# Altium schematic symbol library BSPO.SchLib: 236 symbols (part 1 of 2)
Pins are listed as number, name and electrical type; pins without a type are passive.

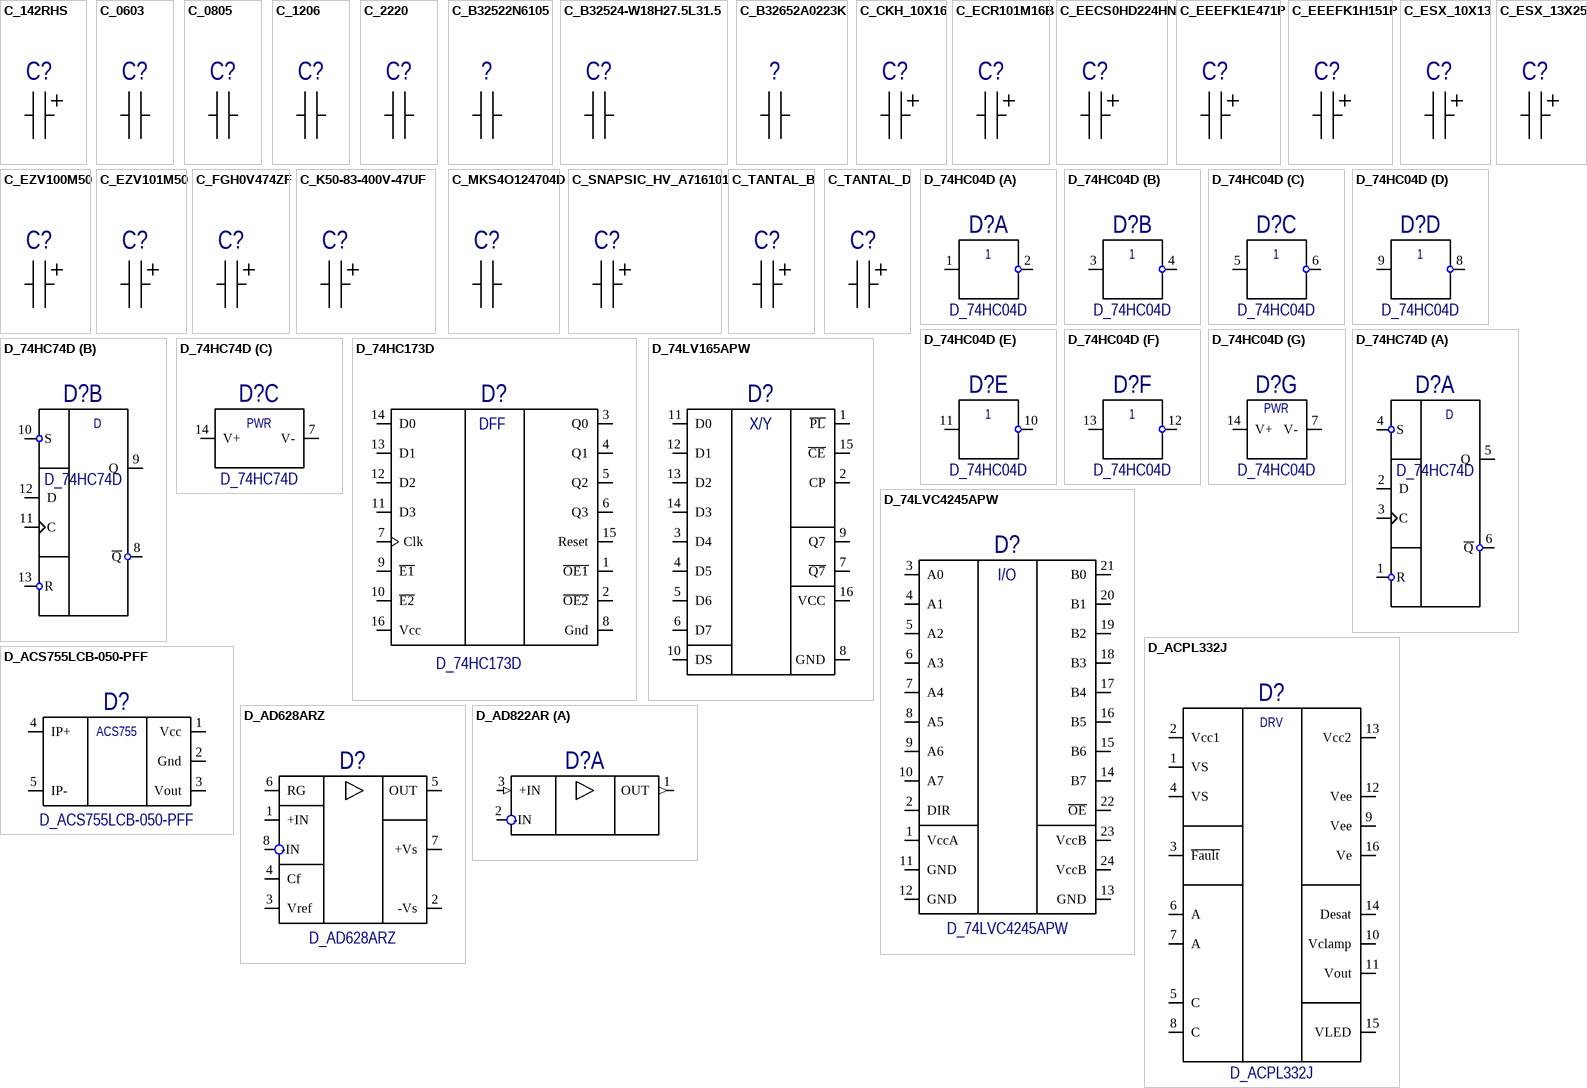
[diagram p0: symbols C_142RHS to D_AD822AR]

## C_142RHS
designator C?  (value not drawn)
Value: {Value}
footprint ESX_8X12_Primary
footprint ESX_8X12_Secondary
pins: 1, 2

## C_0603
designator C?  (value not drawn)
Value: {Value}
footprint C0603_C_0603(Primary)
pins: 1, 2

## C_0805
designator C?  (value not drawn)
Value: {Value}
footprint C0805_C_0805(Primary)
pins: 1, 2

## C_1206
designator C?  (value not drawn)
Value: {Value}
footprint C1206_C_1206(Primary)
pins: 1, 2

## C_2220
designator C?  (value not drawn)
Value: {Value}
footprint C2220_C_2220(Primary)
pins: 1, 2

## C_B32522N6105
designator ?  (value not drawn)
Value: {Value}
footprint B32522_W11.0H18.5L18.0
pins: 1, 2

## C_B32524-W18H27.5L31.5
designator C?  (value not drawn)
Value: {Value}
footprint B32524_Q3106
pins: 1, 2

## C_B32652A0223K
designator ?  (value not drawn)
Value: {Value}
footprint B32652_W5.0H10.5L18.0
pins: 1, 2

## C_CKH_10X16
designator C?  (value not drawn)
Value: {Value}
footprint CKH/CKE_10X16
pins: 1, 2

## C_ECR101M16B
designator C?  (value not drawn)
Value: {Value}
footprint ESX_5X11
pins: 1, 2

## C_EECS0HD224HN
designator C?  (value not drawn)
Value: {Value}
footprint EECS0HD224HN
pins: 1, 2

## C_EEEFK1E471P
designator C?  (value not drawn)
Value: {Value}
footprint EZV151M50
pins: 1, 2

## C_EEEFK1H151P
designator C?  (value not drawn)
Value: {Value}
footprint EZV151M50
pins: 1, 2

## C_ESX_10X13
designator C?  (value not drawn)
Value: {Value}
footprint ESX_10X13_Primary
footprint ESX_10X13_Secondary
pins: 1, 2

## C_ESX_13X25
designator C?  (value not drawn)
Value: {Value}
footprint ESX_13X25_Primary
footprint ESX_13X25_Secondary
pins: 1, 2

## C_EZV100M50
designator C?  (value not drawn)
Value: {Value}
footprint EZV100M50
pins: 1, 2

## C_EZV101M50
designator C?  (value not drawn)
Value: {Value}
footprint EZV101M50
pins: 1, 2

## C_FGH0V474ZF
designator C?  (value not drawn)
Value: {Value}
footprint FGH0V474ZF
pins: 1, 2

## C_K50-83-400V-47UF
designator C?  (value not drawn)
Value: {Value}
footprint CAP_K50-83_18MM
pins: 1, 2

## C_MKS4O124704D
designator C?  (value not drawn)
Value: {Value}
footprint MKS4O_7X14X18
pins: 1, 2

## C_SNAPSIC_HV_A716101
designator C?  (value not drawn)
Value: {Value}
footprint CAP_SNAPIN_22MM
pins: 1, 2

## C_TANTAL_B
designator C?  (value not drawn)
Value: {Value}
footprint TANTAL_B
pins: 1, 2

## C_TANTAL_D
designator C?  (value not drawn)
Value: {Value}
footprint TANTAL_D
pins: 1, 2

## D_74HC04D
designator D?
Value: *
footprint SO-14
part A pins: 1, 2
part B pins: 3, 4
part C pins: 5, 6
part D pins: 8, 9
part E pins: 10, 11
part F pins: 12, 13
part G pins: 7 V-, 14 V+
part G text: PWR

## D_74HC74D
designator D?
Value: *
footprint SO-14
part A pins: 1 R, 2 D, 3 C, 4 S, 5 Q, 6 ~{Q}
part B pins: 8 ~{Q}, 9 Q, 10 S, 11 C, 12 D, 13 R
part C pins: 7 V-, 14 V+
part C text: PWR

## D_74HC173D
designator D?
Value: *
footprint SO-16
pins: 1 ~{OE1}, 2 ~{OE2}, 3 Q0, 4 Q1, 5 Q2, 6 Q3, 7 Clk, 8 Gnd, 9 ~{E1}, 10 ~{E2}, 11 D3, 12 D2, 13 D1, 14 D0, 15 Reset, 16 Vcc
text: DFF

## D_74LV165APW
designator D?  (value not drawn)
Value: *
footprint TSSOP-16
pins: 1 ~{PL}, 2 CP, 3 D4, 4 D5, 5 D6, 6 D7, 7 ~{Q7}, 8 GND, 9 Q7, 10 DS, 11 D0, 12 D1, 13 D2, 14 D3, 15 ~{CE}, 16 VCC
text: X/Y

## D_74LVC4245APW
designator D?
Value: *
footprint TSSOP-24_NO_GND
pins: 1 VccA, 2 DIR, 3 A0, 4 A1, 5 A2, 6 A3, 7 A4, 8 A5, 9 A6, 10 A7, 11 GND, 12 GND, 13 GND, 14 B7, 15 B6, 16 B5, 17 B4, 18 B3, 19 B2, 20 B1, 21 B0, 22 ~{OE}, 23 VccB, 24 VccB
text: I/O

## D_ACPL332J
designator D?
Value: *
footprint SO-16W
pins: 1 VS, 2 Vcc1, 3 ~{Fault}, 4 VS, 5 C, 6 A, 7 A, 8 C, 9 Vee, 10 Vclamp, 11 Vout, 12 Vee, 13 Vcc2, 14 Desat, 15 VLED, 16 Ve
text: DRV

## D_ACS755LCB-050-PFF
designator D?
Value: *
footprint ASC755XCB
pins: 1 Vcc, 2 Gnd, 3 Vout, 4 IP+, 5 IP-
text: ACS755

## D_AD628ARZ
designator D?
Value: *
footprint SO_8
pins: 1 +IN, 2 -Vs, 3 Vref, 4 Cf, 5 OUT, 6 RG, 7 +Vs, 8 -IN

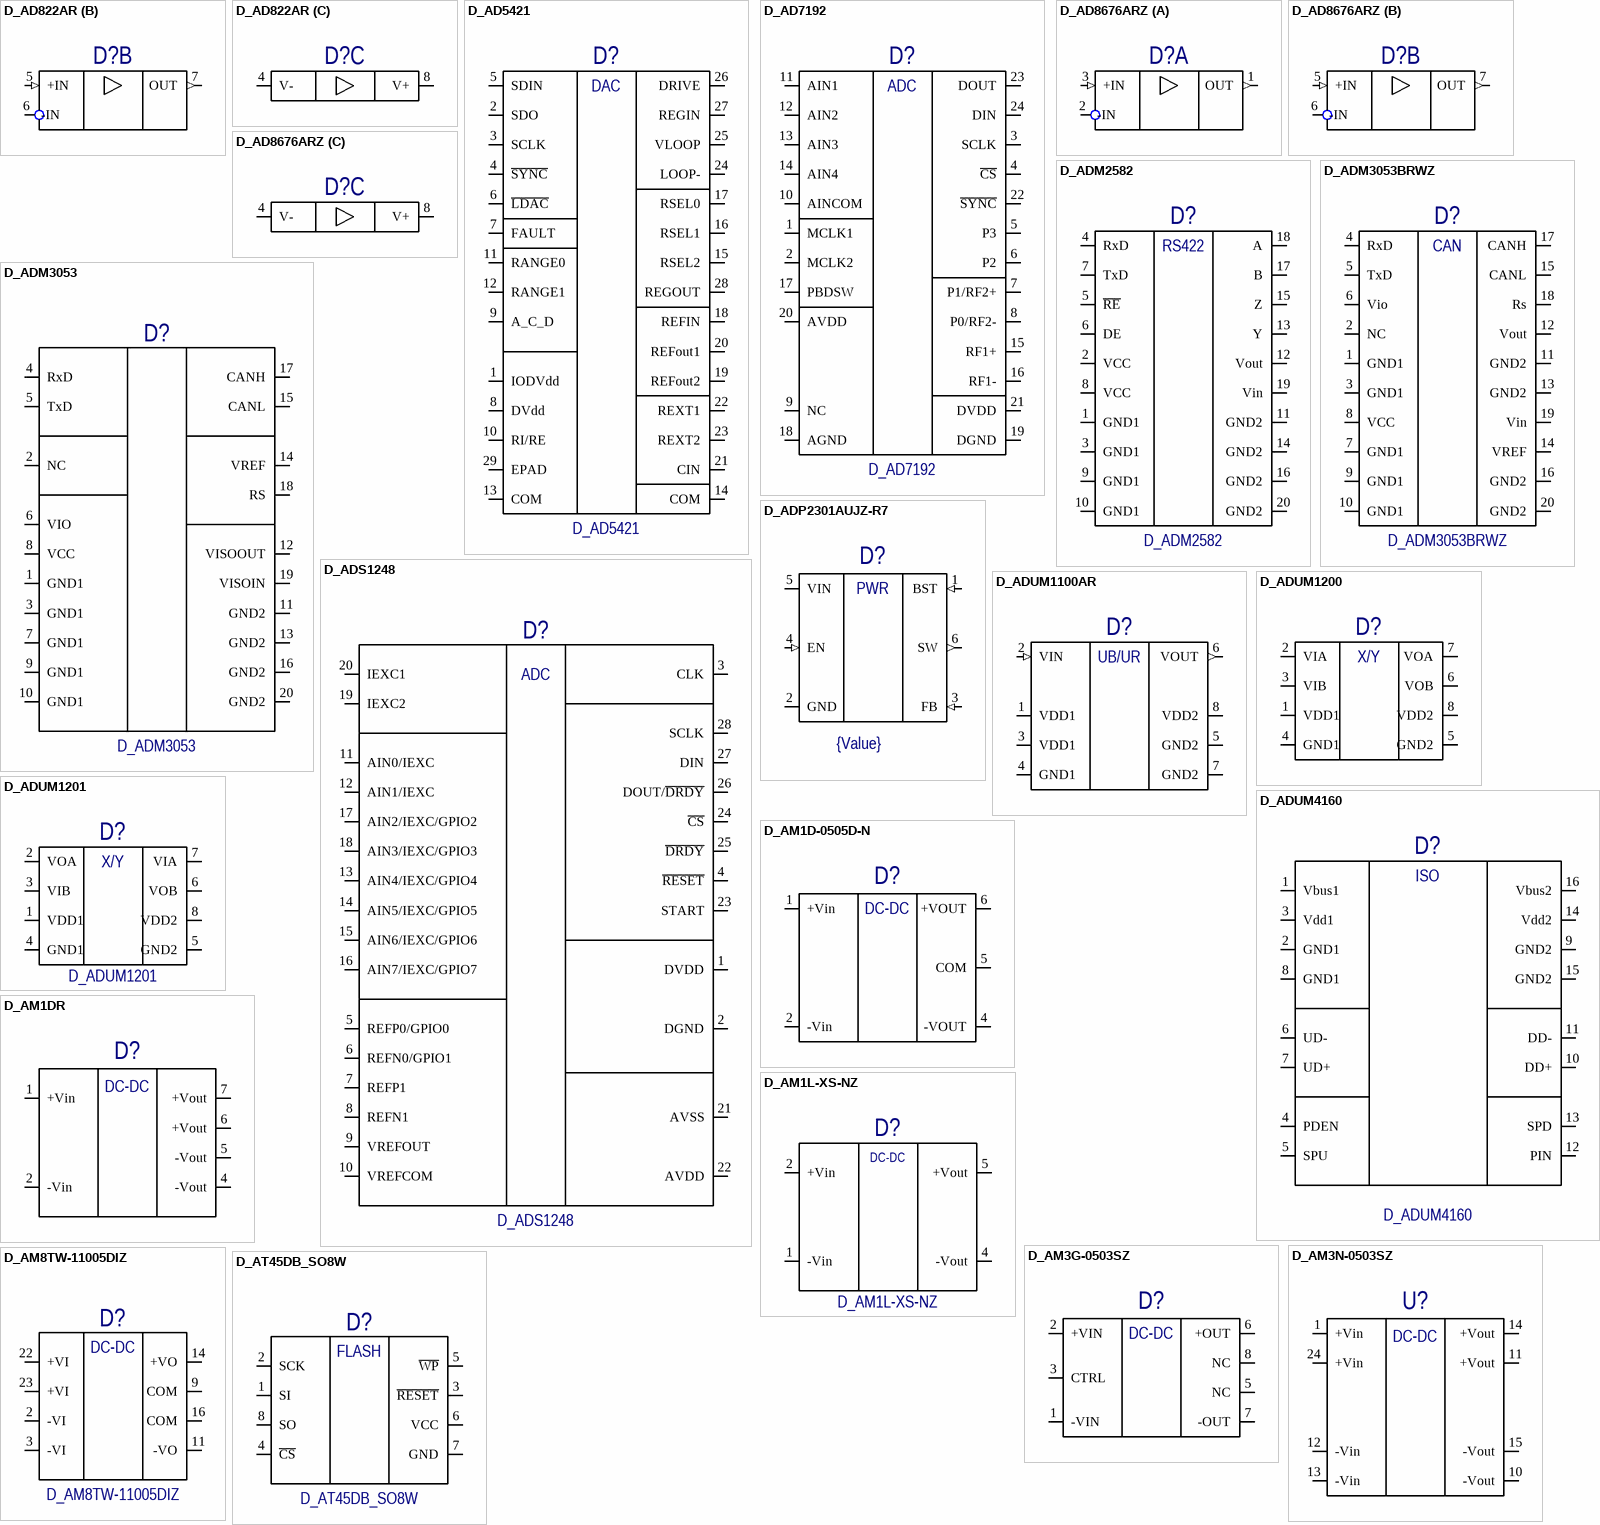
[diagram p1: symbols D_AD822AR to D_AT45DB_SO8W]

## D_AD822AR
designator D?  (value not drawn)
Value: *
footprint SO_8
part A pins: 1 OUT (out), 2 -IN (in), 3 +IN (in)
part B pins: 5 +IN (in), 6 -IN (in), 7 OUT (out)
part C pins: 4 V- (power), 8 V+ (power)

## D_AD5421
designator D?
Value: *
footprint TSSOP-28_1
pins: 1 IODVdd, 2 SDO, 3 SCLK, 4 ~{SYNC}, 5 SDIN, 6 ~{LDAC}, 7 FAULT, 8 DVdd, 9 A_C_D, 10 RI/RE, 11 RANGE0, 12 RANGE1, 13 COM, 14 COM, 15 RSEL2, 16 RSEL1, 17 RSEL0, 18 REFIN, 19 REFout2, 20 REFout1, 21 CIN, 22 REXT1, 23 REXT2, 24 LOOP-, 25 VLOOP, 26 DRIVE, 27 REGIN, 28 REGOUT, 29 EPAD
text: DAC

## D_AD7192
designator D?
Value: *
footprint TSSOP-24_NO_GND
pins: 1 MCLK1, 2 MCLK2, 3 SCLK, 4 ~{CS}, 5 P3, 6 P2, 7 P1/RF2+, 8 P0/RF2-, 9 NC, 10 AINCOM, 11 AIN1, 12 AIN2, 13 AIN3, 14 AIN4, 15 RF1+, 16 RF1-, 17 PBDSW, 18 AGND, 19 DGND, 20 AVDD, 21 DVDD, 22 ~{SYNC}, 23 DOUT, 24 DIN
text: ADC

## D_AD8676ARZ
designator D?  (value not drawn)
Value: *
footprint SO_8
part A pins: 1 OUT (out), 2 -IN (in), 3 +IN (in)
part B pins: 5 +IN (in), 6 -IN (in), 7 OUT (out)
part C pins: 4 V- (power), 8 V+ (power)

## D_ADM2582
designator D?
Value: *
footprint SO-20W
pins: 1 GND1, 2 VCC, 3 GND1, 4 RxD, 5 ~{RE}, 6 DE, 7 TxD, 8 VCC, 9 GND1, 10 GND1, 11 GND2, 12 Vout, 13 Y, 14 GND2, 15 Z, 16 GND2, 17 B, 18 A, 19 Vin, 20 GND2
text: RS422

## D_ADM3053
designator D?
Value: *
footprint SO-20W
pins: 1 GND1, 2 NC, 3 GND1, 4 RxD, 5 TxD, 6 VIO, 7 GND1, 8 VCC, 9 GND1, 10 GND1, 11 GND2, 12 VISOOUT, 13 GND2, 14 VREF, 15 CANL, 16 GND2, 17 CANH, 18 RS, 19 VISOIN, 20 GND2

## D_ADM3053BRWZ
designator D?
Value: *
footprint SO-20W
pins: 1 GND1, 2 NC, 3 GND1, 4 RxD, 5 TxD, 6 Vio, 7 GND1, 8 VCC, 9 GND1, 10 GND1, 11 GND2, 12 Vout, 13 GND2, 14 VREF, 15 CANL, 16 GND2, 17 CANH, 18 Rs, 19 Vin, 20 GND2
text: CAN

## D_ADP2301AUJZ-R7
designator D?  value {Value}  (hidden comment: D_ADP2301AUJZ-R7)
footprint TSOT-6 (UJ-6)
pins: 1 BST (in), 2 GND (power), 3 FB (in), 4 EN (in), 5 VIN (power), 6 SW (out)
text: PWR

## D_ADS1248
designator D?
Value: *
footprint TSSOP-28
pins: 1 DVDD, 2 DGND, 3 CLK, 4 ~{RESET}, 5 REFP0/GPIO0, 6 REFN0/GPIO1, 7 REFP1, 8 REFN1, 9 VREFOUT, 10 VREFCOM, 11 AIN0/IEXC, 12 AIN1/IEXC, 13 AIN4/IEXC/GPIO4, 14 AIN5/IEXC/GPIO5, 15 AIN6/IEXC/GPIO6, 16 AIN7/IEXC/GPIO7, 17 AIN2/IEXC/GPIO2, 18 AIN3/IEXC/GPIO3, 19 IEXC2, 20 IEXC1, 21 AVSS, 22 AVDD, 23 START, 24 ~{CS}, 25 ~{DRDY}, 26 DOUT/~{DRDY}, 27 DIN, 28 SCLK
text: ADC

## D_ADUM1100AR
designator D?  (value not drawn)
Value: *
footprint SO_8
pins: 1 VDD1 (power), 2 VIN (in), 3 VDD1 (power), 4 GND1 (power), 5 GND2 (power), 6 VOUT (out), 7 GND2 (power), 8 VDD2 (power)
text: UB/UR

## D_ADUM1200
designator D?  (value not drawn)
Value: *
footprint SO_8
pins: 1 VDD1, 2 VIA, 3 VIB, 4 GND1, 5 GND2, 6 VOB, 7 VOA, 8 VDD2
text: X/Y

## D_ADUM1201
designator D?
Value: *
footprint SO_8
pins: 1 VDD1, 2 VOA, 3 VIB, 4 GND1, 5 GND2, 6 VOB, 7 VIA, 8 VDD2
text: X/Y

## D_ADUM4160
designator D?
Value: *
footprint SO-16W
pins: 1 Vbus1, 2 GND1, 3 Vdd1, 4 PDEN, 5 SPU, 6 UD-, 7 UD+, 8 GND1, 9 GND2, 10 DD+, 11 DD-, 12 PIN, 13 SPD, 14 Vdd2, 15 GND2, 16 Vbus2
text: ISO

## D_AM1D-0505D-N
designator D?  (value not drawn)
Value: *
footprint AM1D-UNIVERSAL_D_AM1D-0505D-N(Primary)
pins: 1 +Vin, 2 -Vin, 4 -VOUT, 5 COM, 6 +VOUT, 7 hidden
text: DC-DC

## D_AM1DR
designator D?  (value not drawn)
Value: *
footprint AM1D-UNIVERSAL_D_AM1DR(Primary)
pins: 1 +Vin, 2 -Vin, 4 -Vout, 5 -Vout, 6 +Vout, 7 +Vout
text: DC-DC

## D_AM1L-XS-NZ
designator D?
Value: *
footprint AM1L_SINGLE_1000V
pins: 1 -Vin, 2 +Vin, 3 hidden, 4 -Vout, 5 +Vout, 6 hidden, 7 hidden, 8 hidden
text: DC-DC

## D_AM3G-0503SZ
designator D?  (value not drawn)
Value: *
footprint AM3G-XXXXSZ_D_AM3G-0503SZ(Primary)
pins: 1 -VIN, 2 +VIN, 3 CTRL, 5 NC, 6 +OUT, 7 -OUT, 8 NC
text: DC-DC

## D_AM3N-0503SZ
designator U?  (value not drawn)
Value: *
footprint AM3N-XXXXSZ_D_AM3N-0503SZ(Primary)
pins: 1 +Vin, 2 hidden, 3 hidden, 10 -Vout, 11 +Vout, 12 -Vin, 13 -Vin, 14 +Vout, 15 -Vout, 22 hidden, 23 hidden, 24 +Vin
text: DC-DC

## D_AM8TW-11005DIZ
designator D?
Value: *
footprint AM8TW-XXDIZ_D_AM8TW-11005DIZ(Primary)
pins: 2 -VI, 3 -VI, 9 COM, 11 -VO, 14 +VO, 16 COM, 22 +VI, 23 +VI
text: DC-DC

## D_AT45DB_SO8W
designator D?
Value: *
footprint SO8S4X5+W
pins: 1 SI, 2 SCK, 3 ~{RESET}, 4 ~{CS}, 5 ~{WP}, 6 VCC, 7 GND, 8 SO
text: FLASH

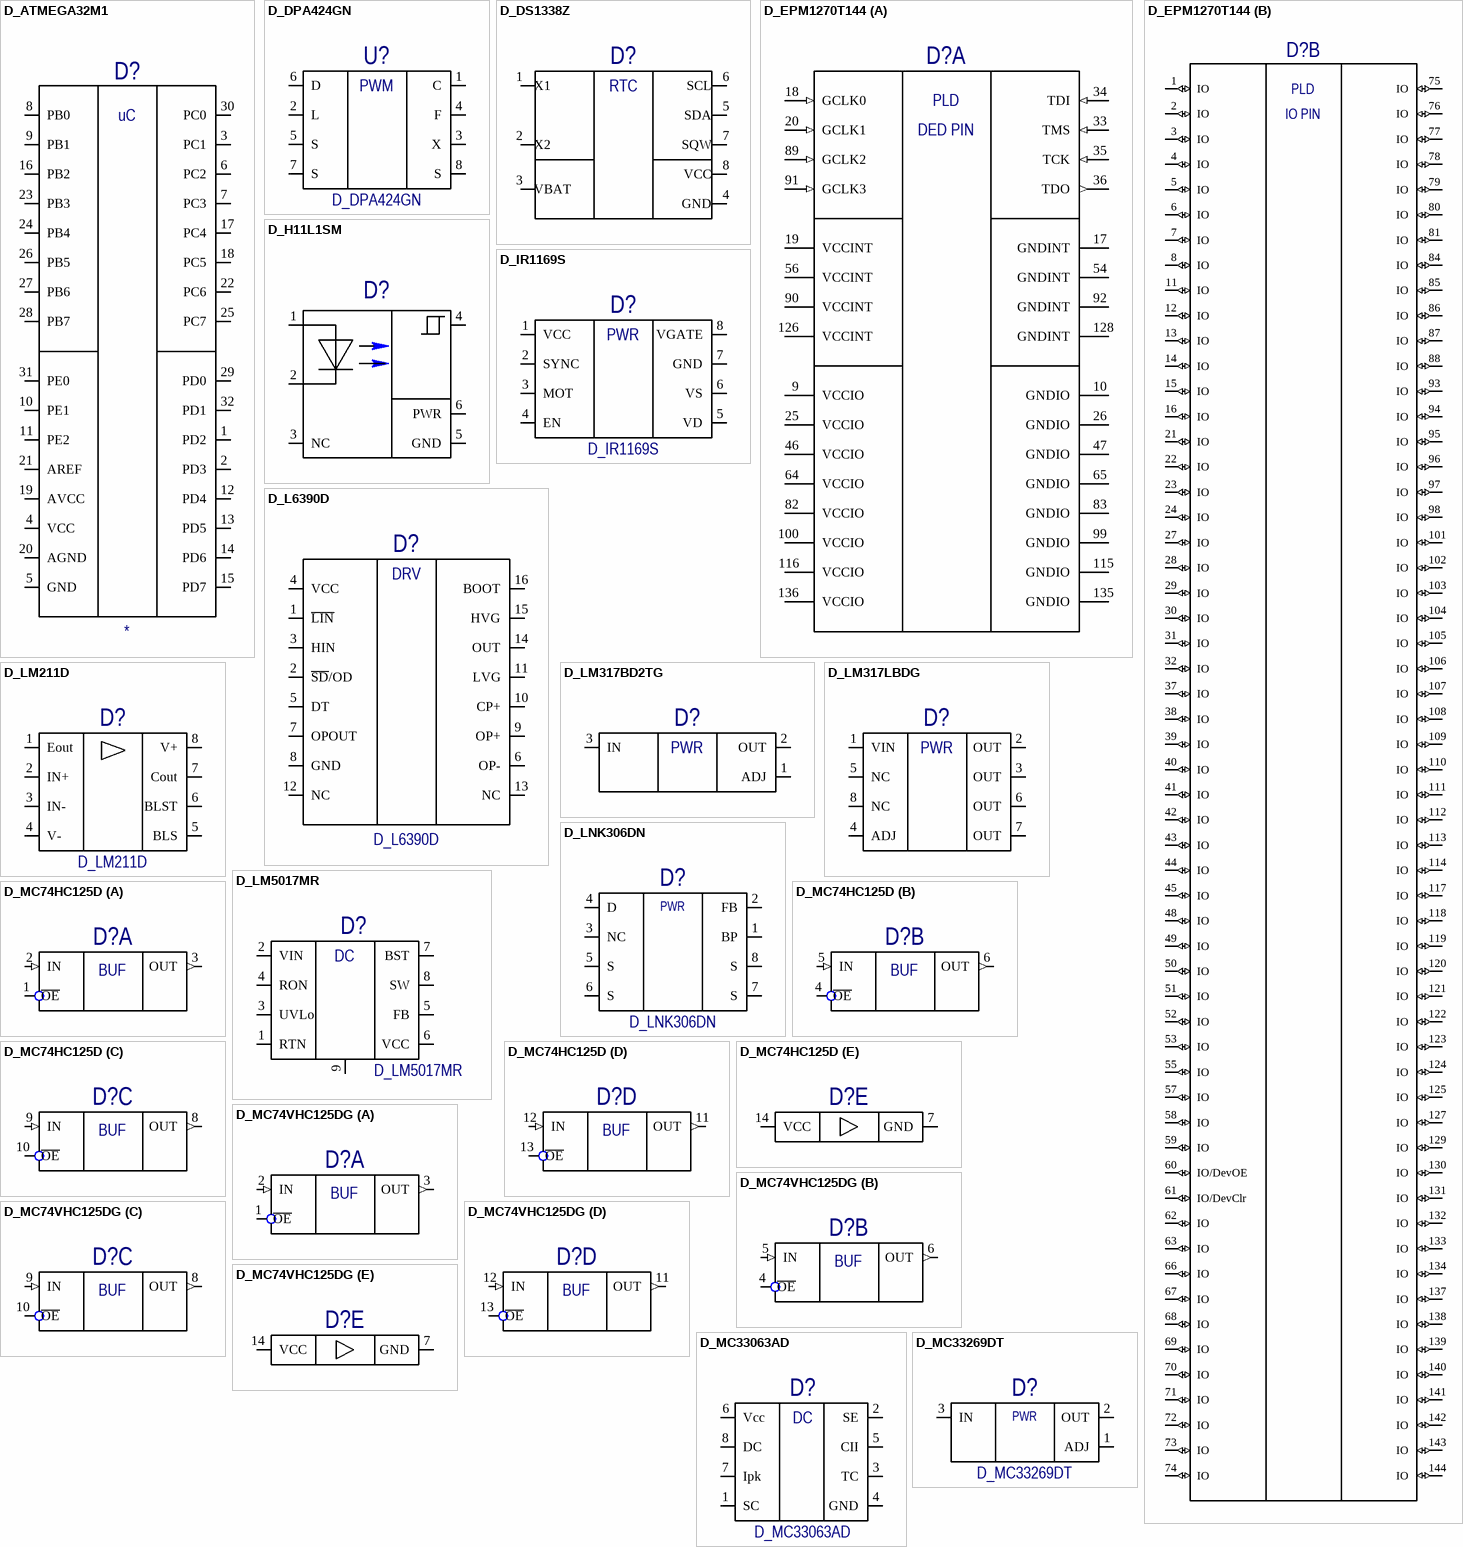
[diagram p2: symbols D_ATMEGA32M1 to D_MC33269DT]

## D_ATMEGA32M1
designator D?  (value not drawn)
Value: *
footprint TQFP32 (7X7)
pins: 1 PD2, 2 PD3, 3 PC1, 4 VCC, 5 GND, 6 PC2, 7 PC3, 8 PB0, 9 PB1, 10 PE1, 11 PE2, 12 PD4, 13 PD5, 14 PD6, 15 PD7, 16 PB2, 17 PC4, 18 PC5, 19 AVCC, 20 AGND, 21 AREF, 22 PC6, 23 PB3, 24 PB4, 25 PC7, 26 PB5, 27 PB6, 28 PB7, 29 PD0, 30 PC0, 31 PE0, 32 PD1
text: uC

## D_DPA424GN
designator U?
Value: *
footprint SMD-8C
pins: 1 C, 2 L, 3 X, 4 F, 5 S, 6 D, 7 S, 8 S
text: PWM

## D_DS1338Z
designator D?  (value not drawn)
Value: *
footprint SO_8
pins: 1 X1, 2 X2, 3 VBAT, 4 GND, 5 SDA, 6 SCL, 7 SQW, 8 VCC
text: RTC

## D_EPM1270T144
designator D?  (value not drawn)
Value: *
footprint TQFP_144
part A pins: 9 VCCIO (power), 10 GNDIO (power), 17 GNDINT (power), 18 GCLK0 (in), 19 VCCINT (power), 20 GCLK1 (in), 25 VCCIO (power), 26 GNDIO (power), 33 TMS (in), 34 TDI (in), 35 TCK (in), 36 TDO (out), 46 VCCIO (power), 47 GNDIO (power), 54 GNDINT (power), 56 VCCINT (power), 64 VCCIO (power), 65 GNDIO (power), 82 VCCIO (power), 83 GNDIO (power), 89 GCLK2 (in), 90 VCCINT (power), 91 GCLK3 (in), 92 GNDINT (power), 99 GNDIO (power), 100 VCCIO (power), 115 GNDIO (power), 116 VCCIO (power), 126 VCCINT (power), 128 GNDINT (power), 135 GNDIO (power), 136 VCCIO (power)
part B pins: 1 IO (io), 2 IO (io), 3 IO (io), 4 IO (io), 5 IO (io), 6 IO (io), 7 IO (io), 8 IO (io), 11 IO (io), 12 IO (io), 13 IO (io), 14 IO (io), 15 IO (io), 16 IO (io), 21 IO (io), 22 IO (io), 23 IO (io), 24 IO (io), 27 IO (io), 28 IO (io), 29 IO (io), 30 IO (io), 31 IO (io), 32 IO (io), 37 IO (io), 38 IO (io), 39 IO (io), 40 IO (io), 41 IO (io), 42 IO (io), 43 IO (io), 44 IO (io), 45 IO (io), 48 IO (io), 49 IO (io), 50 IO (io), 51 IO (io), 52 IO (io), 53 IO (io), 55 IO (io), 57 IO (io), 58 IO (io), 59 IO (io), 60 IO/DevOE (io), 61 IO/DevClr (io), 62 IO (io), 63 IO (io), 66 IO (io), 67 IO (io), 68 IO (io), 69 IO (io), 70 IO (io), 71 IO (io), 72 IO (io), 73 IO (io), 74 IO (io), 75 IO (io), 76 IO (io), 77 IO (io), 78 IO (io), 79 IO (io), 80 IO (io), 81 IO (io), 84 IO (io), 85 IO (io), 86 IO (io), 87 IO (io), 88 IO (io), 93 IO (io), 94 IO (io), 95 IO (io), 96 IO (io), 97 IO (io), 98 IO (io), 101 IO (io), 102 IO (io), 103 IO (io), 104 IO (io), 105 IO (io), 106 IO (io), 107 IO (io), 108 IO (io), 109 IO (io), 110 IO (io), 111 IO (io), 112 IO (io), 113 IO (io), 114 IO (io), 117 IO (io), 118 IO (io), 119 IO (io), 120 IO (io), 121 IO (io), 122 IO (io), 123 IO (io), 124 IO (io), 125 IO (io), 127 IO (io), 129 IO (io), 130 IO (io), 131 IO (io), 132 IO (io), 133 IO (io), 134 IO (io), 137 IO (io), 138 IO (io), 139 IO (io), 140 IO (io), 141 IO (io), 142 IO (io), 143 IO (io), 144 IO (io)
part A text: PLD; DED PIN
part B text: PLD; IO PIN

## D_H11L1SM
designator D?  (value not drawn)
Value: *
footprint 6-PIN DIP SM
pins: 1 A, 2 C, 3 NC, 4 OUT, 5 GND, 6 PWR

## D_IR1169S
designator D?
Value: *
footprint SO_8
pins: 1 VCC, 2 SYNC, 3 MOT, 4 EN, 5 VD, 6 VS, 7 GND, 8 VGATE
text: PWR

## D_L6390D
designator D?
Value: *
footprint SO-16
pins: 1 ~{LIN}, 2 ~{SD}/OD, 3 HIN, 4 VCC, 5 DT, 6 OP-, 7 OPOUT, 8 GND, 9 OP+, 10 CP+, 11 LVG, 12 NC, 13 NC, 14 OUT, 15 HVG, 16 BOOT
text: DRV

## D_LM211D
designator D?
Value: *
footprint SO_8
pins: 1 Eout, 2 IN+, 3 IN-, 4 V-, 5 BLS, 6 BLST, 7 Cout, 8 V+

## D_LM317BD2TG
designator D?  (value not drawn)
Value: *
footprint D2PACK
pins: 1 ADJ, 2 OUT, 3 IN
text: PWR

## D_LM317LBDG
designator D?  (value not drawn)
Value: *
footprint SO_8
pins: 1 VIN, 2 OUT, 3 OUT, 4 ADJ, 5 NC, 6 OUT, 7 OUT, 8 NC
text: PWR

## D_LM5017MR
designator D?
Value: *
footprint SO_8_POWERPAD
pins: 1 RTN, 2 VIN, 3 UVLo, 4 RON, 5 FB, 6 VCC, 7 BST, 8 SW, 9
text: DC

## D_LNK306DN
designator D?
Value: *
footprint SO_8
pins: 1 BP, 2 FB, 3 NC, 4 D, 5 S, 6 S, 7 S, 8 S
text: PWR

## D_MC74HC125D
designator D?  (value not drawn)
Value: *
footprint SO-14
part A pins: 1 ~{OE} (in), 2 IN (in), 3 OUT (out)
part B pins: 4 ~{OE} (in), 5 IN (in), 6 OUT (out)
part C pins: 8 OUT (out), 9 IN (in), 10 ~{OE} (in)
part D pins: 11 OUT (out), 12 IN (in), 13 ~{OE} (in)
part E pins: 7 GND (power), 14 VCC (power)
part A text: BUF
part B text: BUF
part C text: BUF
part D text: BUF

## D_MC74VHC125DG
designator D?  (value not drawn)
Value: *
footprint SO-14
part A pins: 1 ~{OE} (in), 2 IN (in), 3 OUT (out)
part B pins: 4 ~{OE} (in), 5 IN (in), 6 OUT (out)
part C pins: 8 OUT (out), 9 IN (in), 10 ~{OE} (in)
part D pins: 11 OUT (out), 12 IN (in), 13 ~{OE} (in)
part E pins: 7 GND (power), 14 VCC (power)
part A text: BUF
part B text: BUF
part C text: BUF
part D text: BUF

## D_MC33063AD
designator D?
Value: *
footprint SO_8
pins: 1 SC, 2 SE, 3 TC, 4 GND, 5 CII, 6 Vcc, 7 Ipk, 8 DC

## D_MC33269DT
designator D?
Value: *
footprint DPACK_PAT
pins: 1 ADJ, 2 OUT, 3 IN
text: PWR

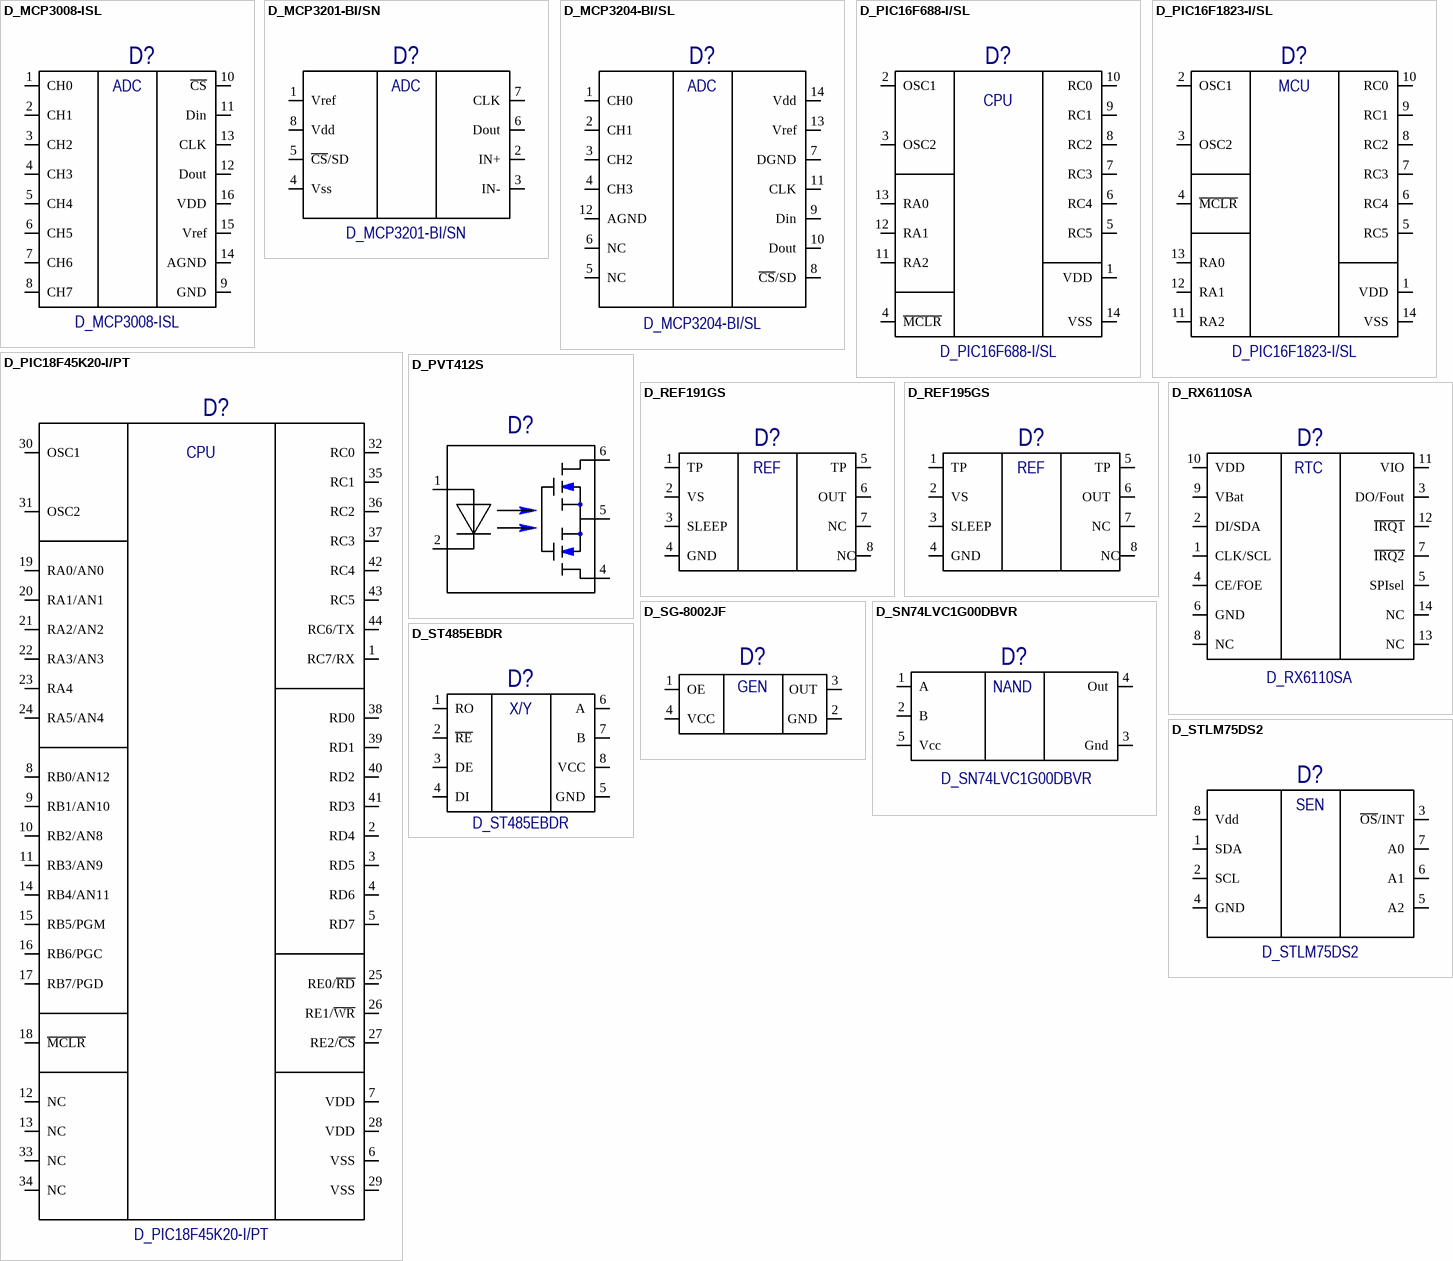
[diagram p3: symbols D_MCP3008-ISL to D_STLM75DS2]

## D_MCP3008-ISL
designator D?
Value: *
footprint SO16S4X10
pins: 1 CH0, 2 CH1, 3 CH2, 4 CH3, 5 CH4, 6 CH5, 7 CH6, 8 CH7, 9 GND, 10 ~{CS}, 11 Din, 12 Dout, 13 CLK, 14 AGND, 15 Vref, 16 VDD
text: ADC

## D_MCP3201-BI/SN
designator D?
Value: *
footprint SO_8
pins: 1 Vref, 2 IN+, 3 IN-, 4 Vss, 5 ~{CS}/SD, 6 Dout, 7 CLK, 8 Vdd
text: ADC

## D_MCP3204-BI/SL
designator D?
Value: *
footprint SO-14
pins: 1 CH0, 2 CH1, 3 CH2, 4 CH3, 5 NC, 6 NC, 7 DGND, 8 ~{CS}/SD, 9 Din, 10 Dout, 11 CLK, 12 AGND, 13 Vref, 14 Vdd
text: ADC

## D_PIC16F688-I/SL
designator D?
Value: *
footprint SO-14
pins: 1 VDD, 2 OSC1, 3 OSC2, 4 ~{MCLR}, 5 RC5, 6 RC4, 7 RC3, 8 RC2, 9 RC1, 10 RC0, 11 RA2, 12 RA1, 13 RA0, 14 VSS
text: CPU

## D_PIC16F1823-I/SL
designator D?
Value: *
footprint SO-14
pins: 1 VDD, 2 OSC1, 3 OSC2, 4 ~{MCLR}, 5 RC5, 6 RC4, 7 RC3, 8 RC2, 9 RC1, 10 RC0, 11 RA2, 12 RA1, 13 RA0, 14 VSS
text: MCU

## D_PIC18F45K20-I/PT
designator D?
Value: *
footprint TQFP_44
pins: 1 RC7/RX, 2 RD4, 3 RD5, 4 RD6, 5 RD7, 6 VSS, 7 VDD, 8 RB0/AN12, 9 RB1/AN10, 10 RB2/AN8, 11 RB3/AN9, 12 NC, 13 NC, 14 RB4/AN11, 15 RB5/PGM, 16 RB6/PGC, 17 RB7/PGD, 18 ~{MCLR}, 19 RA0/AN0, 20 RA1/AN1, 21 RA2/AN2, 22 RA3/AN3, 23 RA4, 24 RA5/AN4, 25 RE0/~{RD}, 26 RE1/~{WR}, 27 RE2/~{CS}, 28 VDD, 29 VSS, 30 OSC1, 31 OSC2, 32 RC0, 33 NC, 34 NC, 35 RC1, 36 RC2, 37 RC3, 38 RD0, 39 RD1, 40 RD2, 41 RD3, 42 RC4, 43 RC5, 44 RC6/TX
text: CPU

## D_PVT412S
designator D?  (value not drawn)
Value: *
footprint 6-PIN DIP SM
pins: 1 A, 2 C, 4 D, 5 S, 6 D

## D_REF191GS
designator D?  (value not drawn)
Value: *
footprint SO_8
pins: 1 TP, 2 VS, 3 SLEEP, 4 GND, 5 TP, 6 OUT, 7 NC, 8 NC
text: REF

## D_REF195GS
designator D?  (value not drawn)
Value: *
footprint SO_8
pins: 1 TP, 2 VS, 3 SLEEP, 4 GND, 5 TP, 6 OUT, 7 NC, 8 NC
text: REF

## D_RX6110SA
designator D?
Value: *
footprint SOP-14
pins: 1 CLK/SCL, 2 DI/SDA, 3 DO/Fout, 4 CE/FOE, 5 SPIsel, 6 GND, 7 ~{IRQ2}, 8 NC, 9 VBat, 10 VDD, 11 VIO, 12 ~{IRQ1}, 13 NC, 14 NC
text: RTC

## D_SG-8002JF
designator D?  (value not drawn)
Value: {Value}
footprint SG-8002JF
pins: 1 OE, 2 GND, 3 OUT, 4 VCC
text: GEN

## D_SN74LVC1G00DBVR
designator D?
Value: *
footprint SOT_23_5
pins: 1 A, 2 B, 3 Gnd, 4 Out, 5 Vcc
text: NAND

## D_ST485EBDR
designator D?
Value: *
footprint SO_8
pins: 1 RO, 2 ~{RE}, 3 DE, 4 DI, 5 GND, 6 A, 7 B, 8 VCC
text: X/Y

## D_STLM75DS2
designator D?
Value: *
footprint TSSOP-8
pins: 1 SDA, 2 SCL, 3 ~{OS}/INT, 4 GND, 5 A2, 6 A1, 7 A0, 8 Vdd
text: SEN

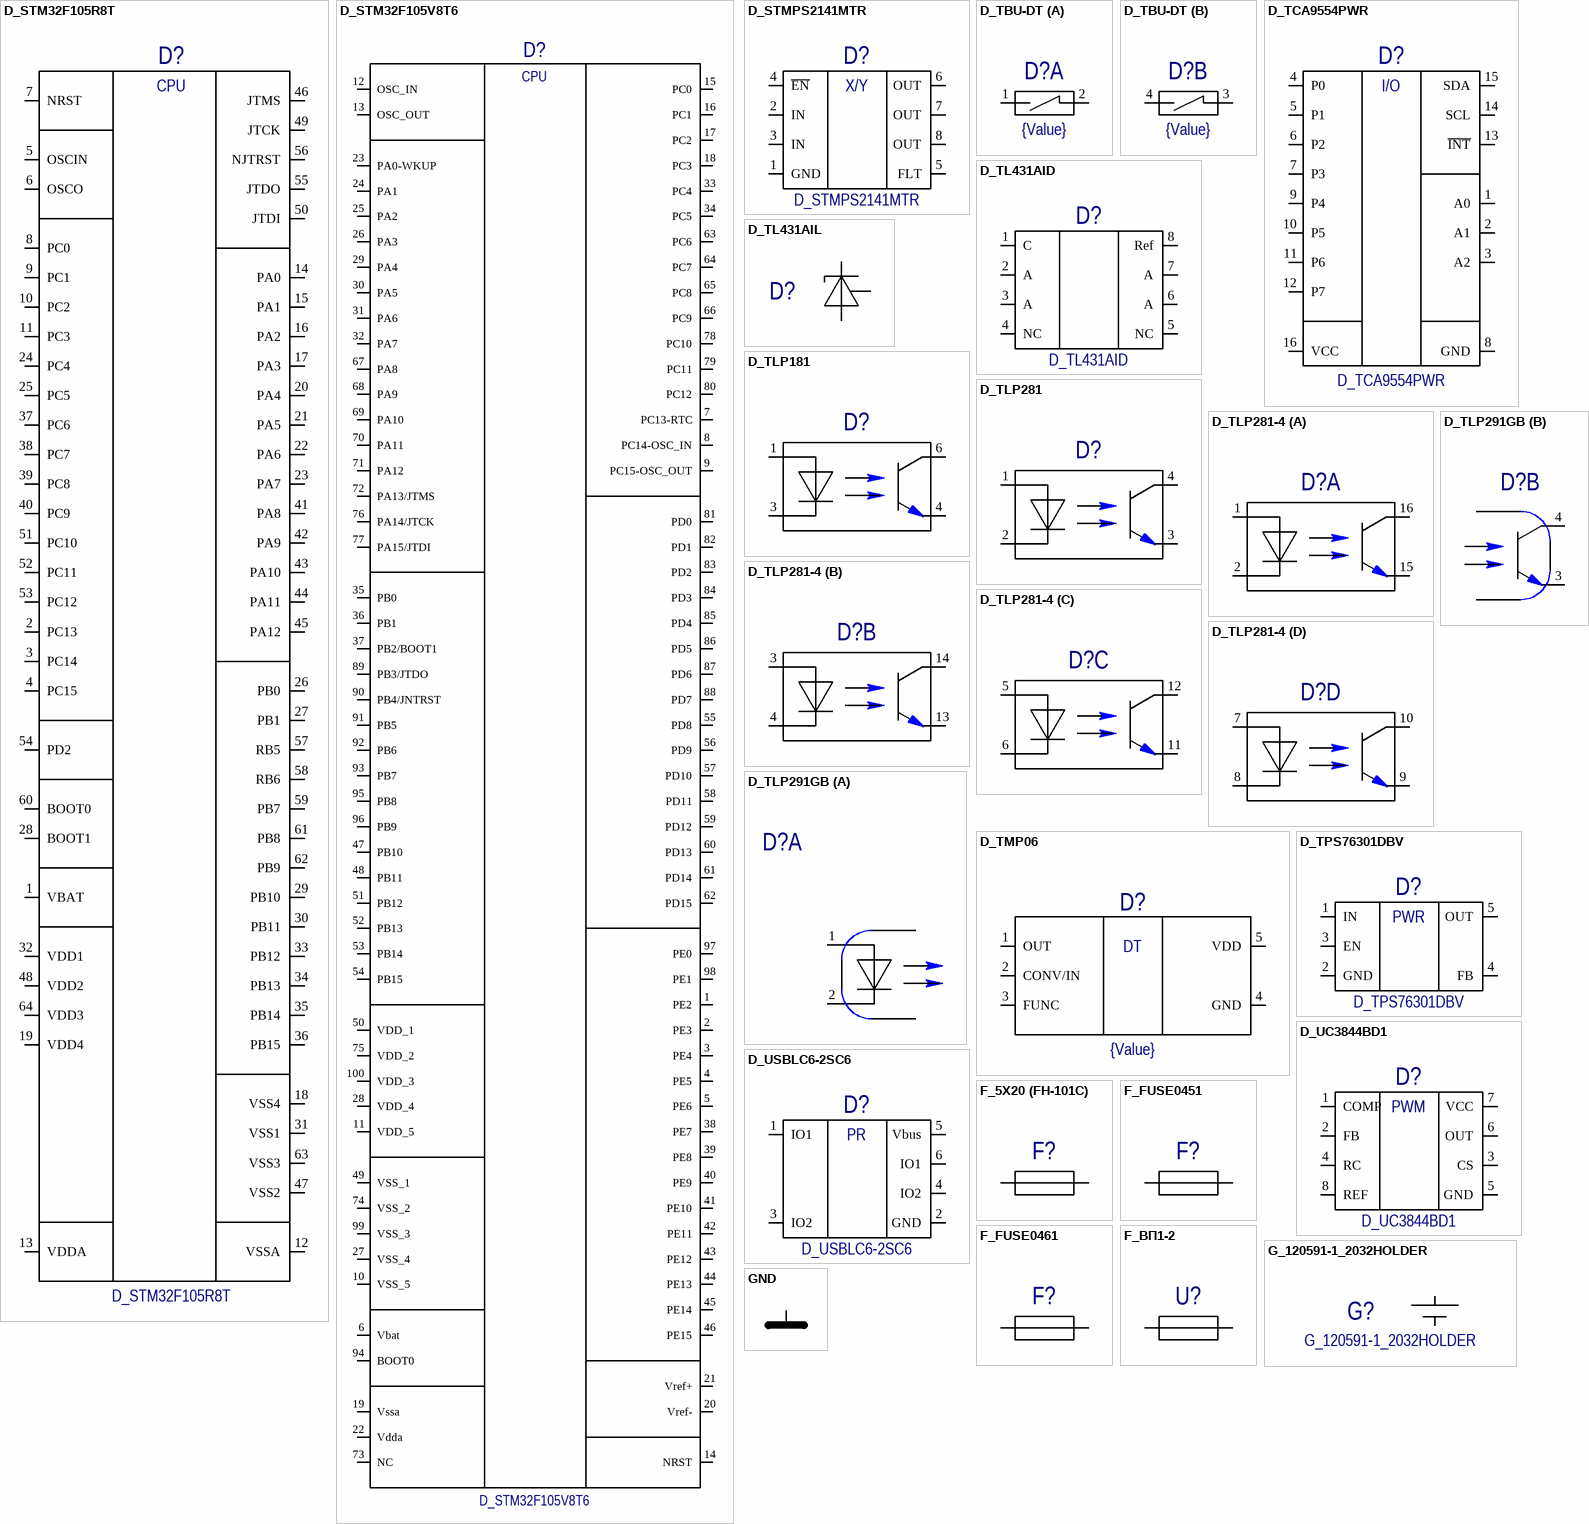
[diagram p4: symbols D_STM32F105R8T to GND]

## D_STM32F105R8T
designator D?
Value: *
footprint TQFP_64
pins: 1 VBAT, 2 PC13, 3 PC14, 4 PC15, 5 OSCIN, 6 OSCO, 7 NRST, 8 PC0, 9 PC1, 10 PC2, 11 PC3, 12 VSSA, 13 VDDA, 14 PA0, 15 PA1, 16 PA2, 17 PA3, 18 VSS4, 19 VDD4, 20 PA4, 21 PA5, 22 PA6, 23 PA7, 24 PC4, 25 PC5, 26 PB0, 27 PB1, 28 BOOT1, 29 PB10, 30 PB11, 31 VSS1, 32 VDD1, 33 PB12, 34 PB13, 35 PB14, 36 PB15, 37 PC6, 38 PC7, 39 PC8, 40 PC9, 41 PA8, 42 PA9, 43 PA10, 44 PA11, 45 PA12, 46 JTMS, 47 VSS2, 48 VDD2, 49 JTCK, 50 JTDI, 51 PC10, 52 PC11, 53 PC12, 54 PD2, 55 JTDO, 56 NJTRST, 57 RB5, 58 RB6, 59 PB7, 60 BOOT0, 61 PB8, 62 PB9, 63 VSS3, 64 VDD3
text: CPU

## D_STM32F105V8T6
designator D?
Value: *
footprint LQPF100
pins: 1 PE2, 2 PE3, 3 PE4, 4 PE5, 5 PE6, 6 Vbat, 7 PC13-RTC, 8 PC14-OSC_IN, 9 PC15-OSC_OUT, 10 VSS_5, 11 VDD_5, 12 OSC_IN, 13 OSC_OUT, 14 NRST, 15 PC0, 16 PC1, 17 PC2, 18 PC3, 19 Vssa, 20 Vref-, 21 Vref+, 22 Vdda, 23 PA0-WKUP, 24 PA1, 25 PA2, 26 PA3, 27 VSS_4, 28 VDD_4, 29 PA4, 30 PA5, 31 PA6, 32 PA7, 33 PC4, 34 PC5, 35 PB0, 36 PB1, 37 PB2/BOOT1, 38 PE7, 39 PE8, 40 PE9, 41 PE10, 42 PE11, 43 PE12, 44 PE13, 45 PE14, 46 PE15, 47 PB10, 48 PB11, 49 VSS_1, 50 VDD_1, 51 PB12, 52 PB13, 53 PB14, 54 PB15, 55 PD8, 56 PD9, 57 PD10, 58 PD11, 59 PD12, 60 PD13, 61 PD14, 62 PD15, 63 PC6, 64 PC7, 65 PC8, 66 PC9, 67 PA8, 68 PA9, 69 PA10, 70 PA11, 71 PA12, 72 PA13/JTMS, 73 NC, 74 VSS_2, 75 VDD_2, 76 PA14/JTCK, 77 PA15/JTDI, 78 PC10, 79 PC11, 80 PC12, 81 PD0, 82 PD1, 83 PD2, 84 PD3, 85 PD4, 86 PD5, 87 PD6, 88 PD7, 89 PB3/JTDO, 90 PB4/JNTRST, 91 PB5, 92 PB6, 93 PB7, 94 BOOT0, 95 PB8, 96 PB9, 97 PE0, 98 PE1, 99 VSS_3, 100 VDD_3
text: CPU

## D_STMPS2141MTR
designator D?
Value: *
footprint SO_8
pins: 1 GND, 2 IN, 3 IN, 4 ~{EN}, 5 FLT, 6 OUT, 7 OUT, 8 OUT
text: X/Y

## D_TBU-DT
designator D?  value {Value}  (hidden comment: D_TBU-DT)
footprint TBU-DT
part A pins: 1, 2
part B pins: 3, 4

## D_TCA9554PWR
designator D?
Value: *
footprint TSSOP-16
pins: 1 A0, 2 A1, 3 A2, 4 P0, 5 P1, 6 P2, 7 P3, 8 GND, 9 P4, 10 P5, 11 P6, 12 P7, 13 ~{INT}, 14 SCL, 15 SDA, 16 VCC
text: I/O

## D_TL431AID
designator D?
Value: *
footprint SO_8
pins: 1 C, 2 A, 3 A, 4 NC, 5 NC, 6 A, 7 A, 8 Ref

## D_TL431AIL
designator D?  (value not drawn)
Value: *
footprint SOT-23
pins: 1 C, 2 REF, 3 A

## D_TLP181
designator D?  (value not drawn)
Value: *
footprint MFSOP6_D_TLP181(Primary)
pins: 1 A, 3 C, 4 E, 6 K

## D_TLP281
designator D?  (value not drawn)
Value: *
footprint TLP280
pins: 1 A, 2 C, 3 E, 4 C

## D_TLP281-4
designator D?  (value not drawn)
Value: *
footprint TLP280-4
part A pins: 1 A, 2 C, 15 E, 16 C
part B pins: 3 A, 4 C, 13 E, 14 C
part C pins: 5 A, 6 C, 11 E, 12 C
part D pins: 7 A, 8 C, 9 E, 10 C

## D_TLP291GB
designator D?  (value not drawn)
Value: *
footprint TLP280
part A pins: 1 A, 2 C
part B pins: 3 E, 4 C

## D_TMP06
designator D?  value {Value}  (hidden comment: D_TMP06)
footprint SOT_23_5
pins: 1 OUT, 2 CONV/IN, 3 FUNC, 4 GND, 5 VDD
text: DT

## D_TPS76301DBV
designator D?
Value: *
footprint SOT_23_5
pins: 1 IN, 2 GND, 3 EN, 4 FB, 5 OUT
text: PWR

## D_UC3844BD1
designator D?
Value: *
footprint SO_8_D_UC3844BD1(Primary)
pins: 1 COMP, 2 FB, 3 CS, 4 RC, 5 GND, 6 OUT, 7 VCC, 8 REF
text: PWM

## D_USBLC6-2SC6
designator D?
Value: *
footprint SOT_23_6
pins: 1 IO1, 2 GND, 3 IO2, 4 IO2, 5 Vbus, 6 IO1
text: PR

## F_5X20 (FH-101C)
designator F?  (value not drawn)
Value: {Value}
footprint FH-101C
pins: 1, 2

## F_FUSE0451
designator F?  (value not drawn)
Value: {Value}
footprint LF451
pins: 1, 2

## F_FUSE0461
designator F?  (value not drawn)
Value: {Value}
footprint LF461
pins: 1, 2

## F_ВП1-2
designator U?  (value not drawn)
Value: {Value}
footprint VP1-2
pins: 1, 2

## G_120591-1_2032HOLDER
designator G?
Value: *
footprint 120591-1_2032HOLDER
pins: 1, 2

## GND
designator PWR?  (value not drawn)
Value: *
pins: 1 GND (power)

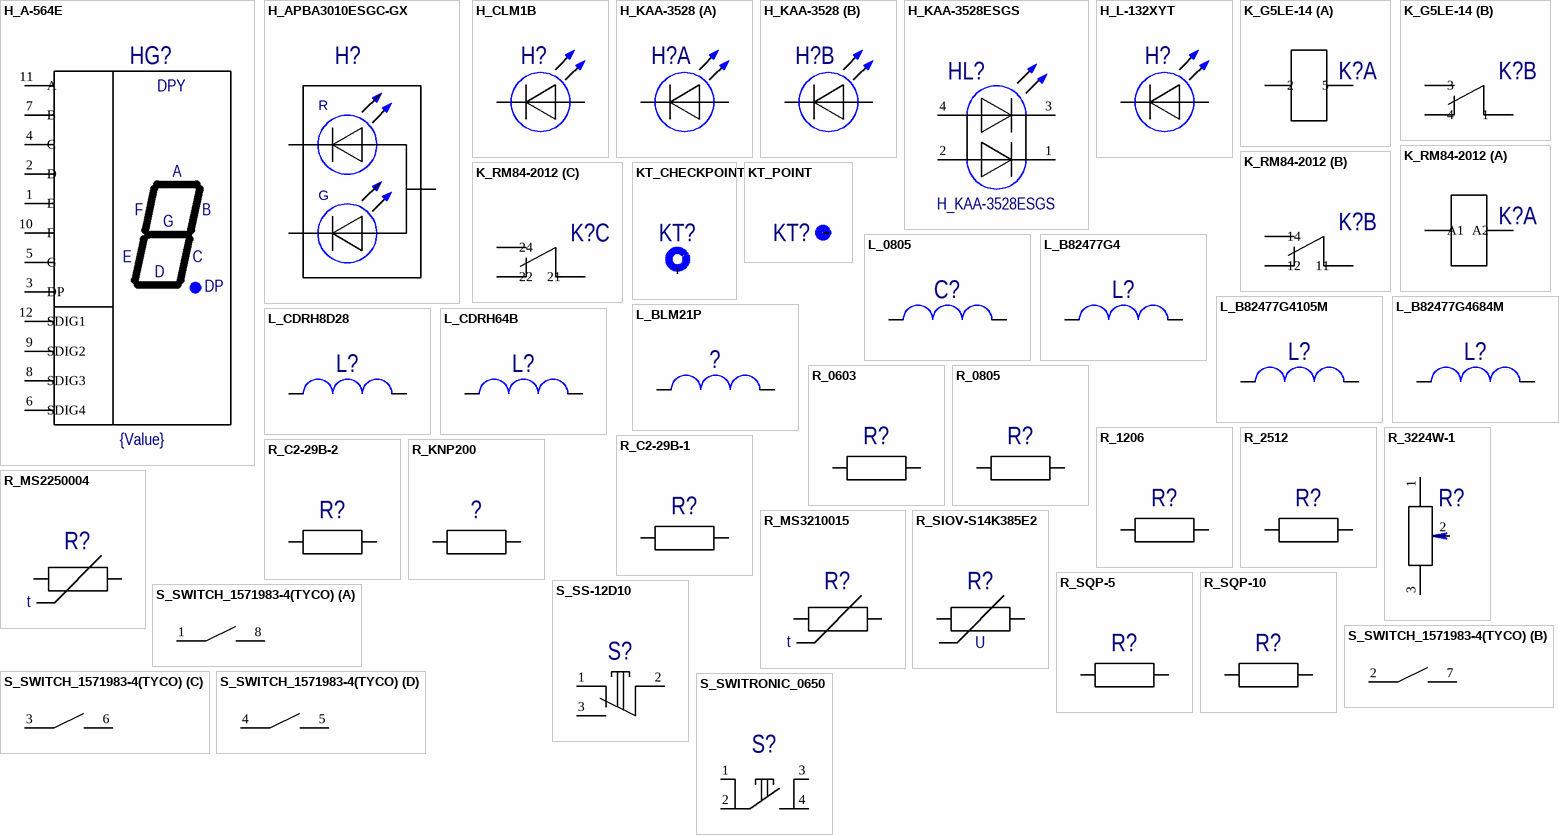
[diagram p5: symbols H_A-564E to S_SWITRONIC_0650]

## H_A-564E
designator HG?  value {Value}  (hidden comment: H_A-564E)
footprint A/C-564
pins: 1 E, 2 D, 3 DP, 4 C, 5 G, 6 SDIG4, 7 B, 8 SDIG3, 9 SDIG2, 10 F, 11 A, 12 SDIG1
text: DPY

## H_APBA3010ESGC-GX
designator H?  (value not drawn)
Value: *
footprint KPBA-3010
pins: 1 A, 2 CR, 3 CG
text: R; G

## H_CLM1B
designator H?  (value not drawn)
Value: *
footprint LT T673
pins: 1 A, 2 C

## H_KAA-3528
designator H?  (value not drawn)
Value: *
footprint KAA-3528
part A pins: 1 C, 2 A
part B pins: 3 C, 4 A

## H_KAA-3528ESGS
designator HL?
Value: *
footprint KAA-3528
pins: 1, 2, 3, 4

## H_L-132XYT
designator H?  (value not drawn)
Value: *
footprint L-132
pins: 1 A, 2 C

## K_G5LE-14
designator K?  (value not drawn)
Value: *
footprint G5LE_PAT
part A pins: 2, 5
part B pins: 1, 3, 4

## K_RM84-2012
designator K?  (value not drawn)
Value: *
footprint RM84_2C/O_K_RM84-2012(Primary)
part A pins: A1, A2
part B pins: 11, 12, 14
part C pins: 21, 22, 24

## KT_CHECKPOINT
designator KT?  (value not drawn)
Value: *
footprint CHECKPOINT_Primary
footprint CHECKPOINT_Secondary
footprint CHECKPOINT_Via
pins: 1

## KT_POINT
designator KT?  (value not drawn)
Value: *
footprint CHECKPOINT_Primary
footprint CHECKPOINT_Secondary
footprint CHECKPOINT_Via
pins: 1

## L_0805
designator C?  (value not drawn)
Value: {Value}
footprint C0805_L_0805(Primary)
pins: 1, 2

## L_B82477G4
designator L?  (value not drawn)
Value: {Value}
footprint B82477G4684M
pins: 1, 2

## L_B82477G4105M
designator L?  (value not drawn)
Value: {Value}
footprint B82477G4684M
pins: 1, 2

## L_B82477G4684M
designator L?  (value not drawn)
Value: {Value}
footprint B82477G4684M
pins: 1, 2

## L_BLM21P
designator ?  (value not drawn)
Value: {Value}
footprint R0805
pins: 1, 2

## L_CDRH8D28
designator L?  (value not drawn)
Value: {Value}
footprint CDRH8D28
pins: 1, 2

## L_CDRH64B
designator L?  (value not drawn)
Value: {Value}
footprint CDRH64B
pins: 1, 2

## R_0603
designator R?  (value not drawn)
Value: {Value}
footprint R0603
pins: 1, 2

## R_0805
designator R?  (value not drawn)
Value: {Value}
footprint R0805
pins: 1, 2

## R_1206
designator R?  (value not drawn)
Value: {Value}
footprint R1206
pins: 1, 2

## R_2512
designator R?  (value not drawn)
Value: {Value}
footprint R2512
pins: 1, 2

## R_3224W-1
designator R?  (value not drawn)
Value: {Value}
footprint 3224W
pins: 1, 2, 3

## R_C2-29B-1
designator R?  (value not drawn)
Value: {Value}
footprint С2-29В-1
pins: 1, 2

## R_C2-29B-2
designator R?  (value not drawn)
Value: {Value}
footprint С2-29В-2
pins: 1, 2

## R_KNP200
designator ?  (value not drawn)
Value: {Value}
footprint KNP200
pins: 1, 2

## R_MS2250004
designator R?  (value not drawn)
Value: {Value}
footprint MS22 50004_Primary
footprint MS22 50004_Secondary
pins: 1, 2
text: t

## R_MS3210015
designator R?  (value not drawn)
Value: {Value}
footprint MS32 10015_Primary
footprint MS32 10015_Secondary
pins: 1, 2
text: t

## R_SIOV-S14K385E2
designator R?  (value not drawn)
Value: {Value}
footprint S14K385E2
pins: 1, 2
text: U

## R_SQP-5
designator R?  (value not drawn)
Value: {Value}
footprint SQP-5
pins: 1, 2

## R_SQP-10
designator R?  (value not drawn)
Value: {Value}
footprint SQP10A
pins: 1, 2

## S_SS-12D10
designator S?  (value not drawn)
Value: *
footprint SS-12D10
pins: 1, 2, 3

## S_SWITCH_1571983-4(TYCO)
designator S?  (value not drawn)
Value: *
footprint 1571983-4
part A pins: 1, 8
part B pins: 2, 7
part C pins: 3, 6
part D pins: 4, 5

## S_SWITRONIC_0650
designator S?  (value not drawn)
Value: *
footprint SWITRONIC_0650
pins: 1, 2, 3, 4

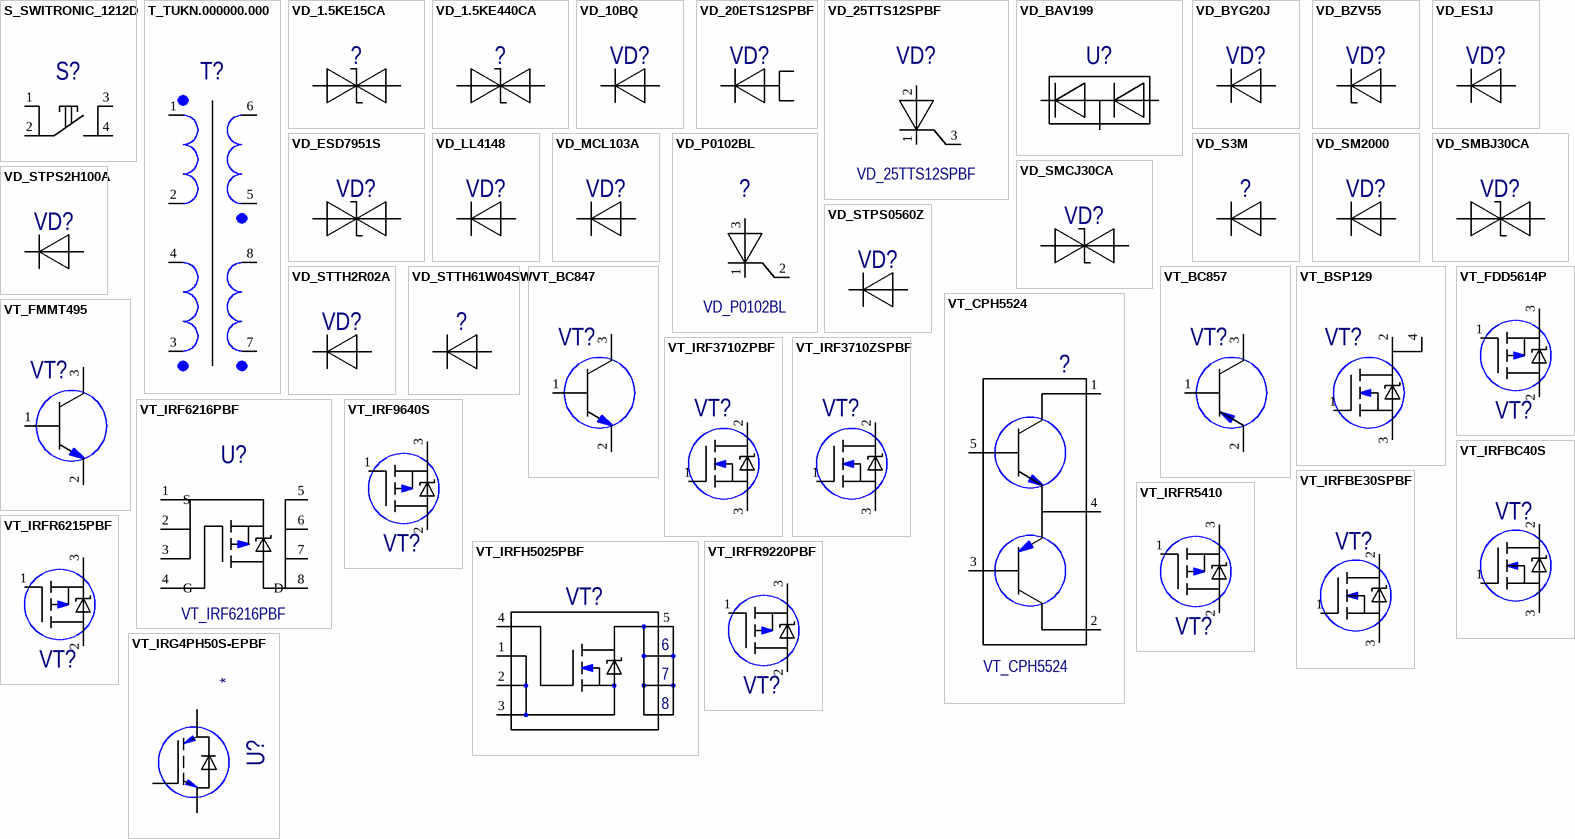
[diagram p6: symbols S_SWITRONIC_1212D to VT_IRG4PH50S-EPBF]

## S_SWITRONIC_1212D
designator S?  (value not drawn)
Value: *
footprint SWITRONIC_1212D
pins: 1, 2, 3, 4

## T_TUKN.000000.000
designator T?  (value not drawn)
Value: {Value}
footprint EFD-20
pins: 1, 2, 3, 4, 5, 6, 7, 8

## VD_1.5KE15CA
designator ?  (value not drawn)
Value: *
footprint DO-201
pins: 1 A, 2 C

## VD_1.5KE440CA
designator ?  (value not drawn)
Value: *
footprint DO-201
pins: 1 A, 2 C

## VD_10BQ
designator VD?  (value not drawn)
Value: *
footprint SMB
pins: 1 A, 2 C

## VD_20ETS12SPBF
designator VD?  (value not drawn)
Value: *
footprint D2PACK
pins: 1 A, 2 C, 3 A

## VD_25TTS12SPBF
designator VD?
Value: *
footprint D2PACK
pins: 1 C, 2 A, 3 G

## VD_BAV199
designator U?  (value not drawn)
Value: *
footprint SOT-23
pins: 1 A, 2 C, 3 CA

## VD_BYG20J
designator VD?  (value not drawn)
Value: *
footprint SMA
pins: 1 A, 2 C

## VD_BZV55
designator VD?  (value not drawn)
Value: *
footprint SOD_80
pins: 1 A, 2 C

## VD_ES1J
designator VD?  (value not drawn)
Value: *
footprint SMA
pins: 1 A, 2 C

## VD_ESD7951S
designator VD?  (value not drawn)
Value: *
footprint SOD-923
pins: 1, 2

## VD_LL4148
designator VD?  (value not drawn)
Value: *
footprint SOD_80
pins: 1 A, 2 C

## VD_MCL103A
designator VD?  (value not drawn)
Value: *
footprint MICROMELF
pins: 1 A, 2 C

## VD_P0102BL
designator ?
Value: *
footprint SOT-23
pins: 1 C, 2 G, 3 A

## VD_S3M
designator ?  (value not drawn)
Value: *
footprint SMC
pins: 1 A, 2 C

## VD_SM2000
designator VD?  (value not drawn)
Value: *
footprint DO-213AB
pins: 1 A, 2 C

## VD_SMBJ30CA
designator VD?  (value not drawn)
Value: *
footprint SMB
pins: 1 A, 2 C

## VD_SMCJ30CA
designator VD?  (value not drawn)
Value: *
footprint SMCJ__CA
pins: 1, 2

## VD_STPS2H100A
designator VD?  (value not drawn)
Value: *
footprint SMA
pins: 1 A, 2 C

## VD_STPS0560Z
designator VD?  (value not drawn)
Value: *
footprint SOD-123
pins: 1 A, 2 C

## VD_STTH2R02A
designator VD?  (value not drawn)
Value: *
footprint SMA
pins: 1 A, 2 C

## VD_STTH61W04SW
designator ?  (value not drawn)
Value: *
footprint TO_247AC_2RAD
footprint TO_247AC_MDVV
footprint TO_247AC_Primary
footprint TO_247AC_Vertical
pins: 1, 2, 3 hidden

## VT_BC847
designator VT?  (value not drawn)
Value: *
footprint SOT-23
pins: 1 B, 2 E, 3 C

## VT_BC857
designator VT?  (value not drawn)
Value: *
footprint SOT-23
pins: 1 B, 2 E, 3 C

## VT_BSP129
designator VT?  (value not drawn)
Value: *
footprint SOT223
pins: 1 G, 2 D, 3 S, 4 D

## VT_CPH5524
designator ?
Value: *
footprint SOT_25
pins: 1, 2, 3, 4, 5

## VT_FDD5614P
designator VT?  (value not drawn)
Value: *
footprint DPACK_PAT
pins: 1 G, 2 D, 3 S

## VT_FMMT495
designator VT?  (value not drawn)
Value: *
footprint SOT-23
pins: 1 B, 2 E, 3 C

## VT_IRF3710ZPBF
designator VT?  (value not drawn)
Value: *
footprint TO-220_HORIZONTAL_Primary
footprint TO-220_HORIZONTAL_Secondary
footprint TO-220_HORIZONTAL_TO220_600V
pins: 1 G, 2 D, 3 S

## VT_IRF3710ZSPBF
designator VT?  (value not drawn)
Value: *
footprint D2PACK
pins: 1 G, 2 D, 3 S

## VT_IRF6216PBF
designator U?
Value: *
footprint SO_8
pins: 1 S, 2 S, 3 S, 4 G, 5 D, 6 D, 7 D, 8 D

## VT_IRF9640S
designator VT?  (value not drawn)
Value: *
footprint D2PACK
pins: 1 G, 2 D, 3 S

## VT_IRFBC40S
designator VT?  (value not drawn)
Value: *
footprint D2PACK
pins: 1 G, 2 D, 3 S

## VT_IRFBE30SPBF
designator VT?  (value not drawn)
Value: *
footprint D2PACK
pins: 1 G, 2 D, 3 S

## VT_IRFH5025PBF
designator VT?  (value not drawn)
Value: *
footprint PQFN 5X6
pins: 1 S, 2 S, 3 S, 4 G, 5 D
text: 6; 7; 8

## VT_IRFR5410
designator VT?  (value not drawn)
Value: *
footprint DPACK_PAT
pins: 1 G, 2 D, 3 S

## VT_IRFR6215PBF
designator VT?  (value not drawn)
Value: *
footprint DPACK_PAT
pins: 1 G, 2 D, 3 S

## VT_IRFR9220PBF
designator VT?  (value not drawn)
Value: *
footprint DPACK_PAT
pins: 1 G, 2 D, 3 S

## VT_IRG4PH50S-EPBF
designator U?  (value not drawn)
Value: *
footprint TO_247AC_2RAD
footprint TO_247AC_MDVV
footprint TO_247AC_Primary
footprint TO_247AC_Vertical
pins: 1 G, 2 C, 3 E

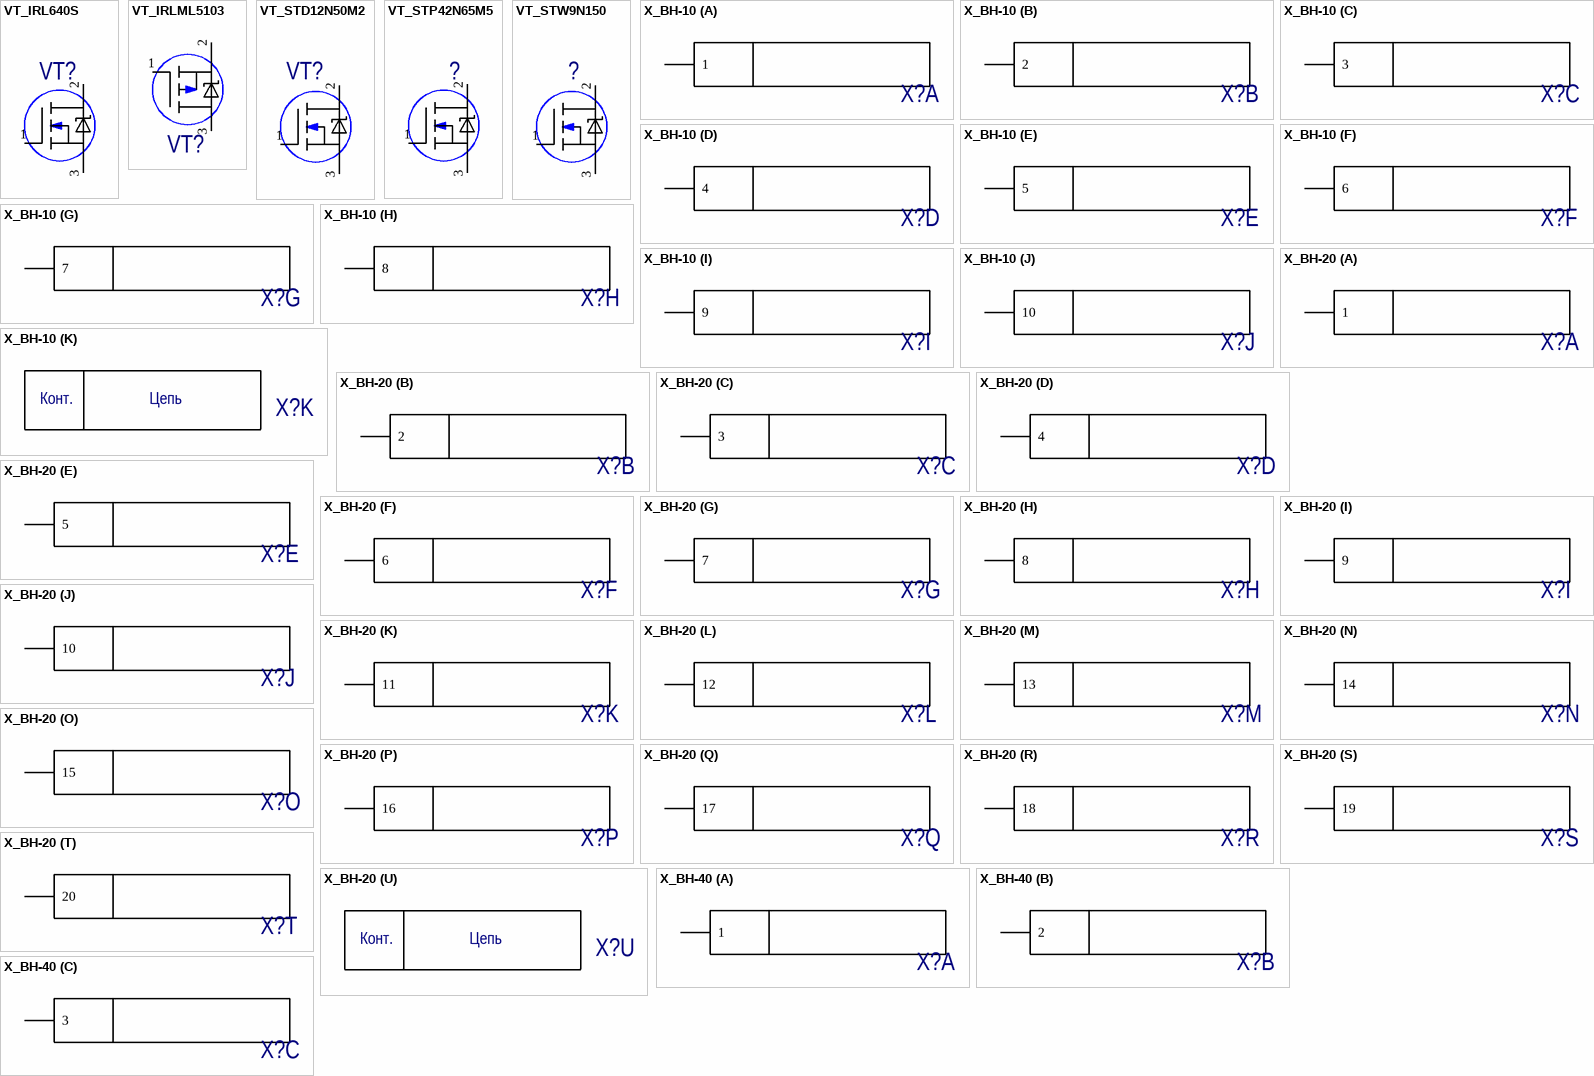
[diagram p7: symbols VT_IRL640S to X_BH-40]

## VT_IRL640S
designator VT?  (value not drawn)
Value: *
footprint D2PACK
pins: 1 G, 2 D, 3 S

## VT_IRLML5103
designator VT?  (value not drawn)
Value: *
footprint SOT-23
pins: 1 G, 2 S, 3 D

## VT_STD12N50M2
designator VT?  (value not drawn)
Value: *
footprint DPACK_PAT
pins: 1 G, 2 D, 3 S

## VT_STP42N65M5
designator ?  (value not drawn)
Value: *
footprint TO-220_HORIZONTAL_Primary
footprint TO-220_HORIZONTAL_Secondary
footprint TO-220_HORIZONTAL_TO220_600V
pins: 1 G, 2 D, 3 S

## VT_STW9N150
designator ?  (value not drawn)
Value: *
footprint TO_247AC_2RAD
footprint TO_247AC_MDVV
footprint TO_247AC_Primary
footprint TO_247AC_Vertical
pins: 1 G, 2 D, 3 S

## X_BH-10
designator X?  (value not drawn)
Value: *
footprint BH-10
part A pins: 1
part B pins: 2
part C pins: 3
part D pins: 4
part E pins: 5
part F pins: 6
part G pins: 7
part H pins: 8
part I pins: 9
part J pins: 10
part K text: Конт.; Цепь

## X_BH-20
designator X?  (value not drawn)
Value: *
footprint BH-20
part A pins: 1
part B pins: 2
part C pins: 3
part D pins: 4
part E pins: 5
part F pins: 6
part G pins: 7
part H pins: 8
part I pins: 9
part J pins: 10
part K pins: 11
part L pins: 12
part M pins: 13
part N pins: 14
part O pins: 15
part P pins: 16
part Q pins: 17
part R pins: 18
part S pins: 19
part T pins: 20
part U text: Конт.; Цепь

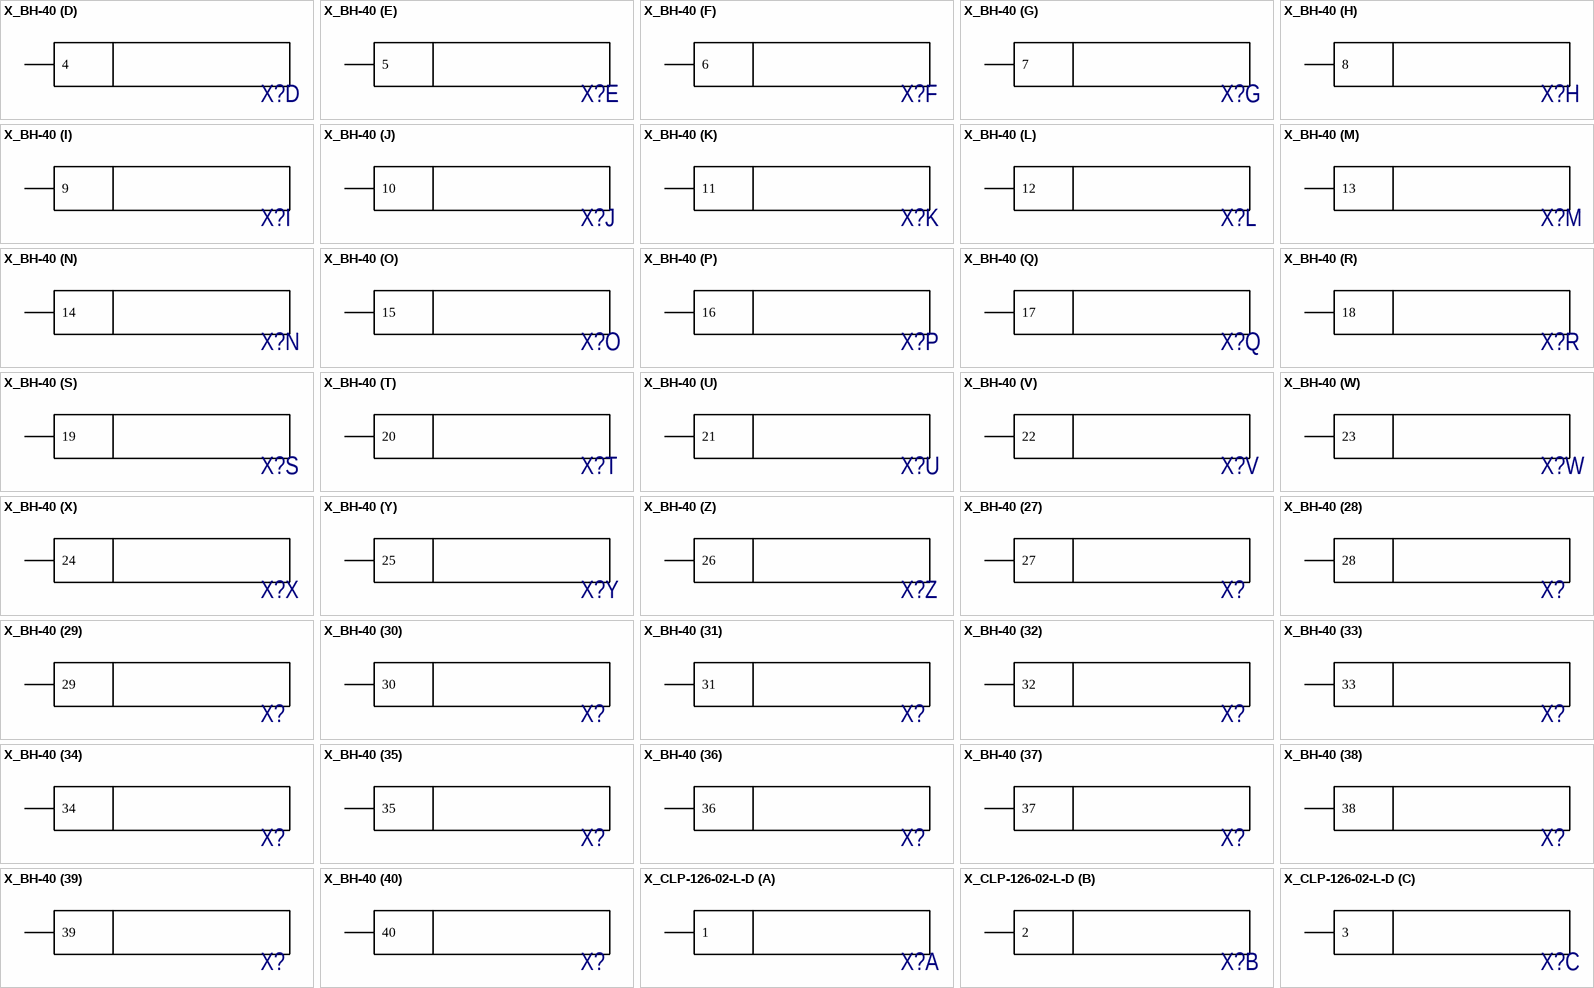
[diagram p8: symbols X_BH-40 to X_CLP-126-02-L-D]

## X_BH-40
designator X?  (value not drawn)
Value: *
footprint BH-40
part A pins: 1
part B pins: 2
part C pins: 3
part D pins: 4
part E pins: 5
part F pins: 6
part G pins: 7
part H pins: 8
part I pins: 9
part J pins: 10
part K pins: 11
part L pins: 12
part M pins: 13
part N pins: 14
part O pins: 15
part P pins: 16
part Q pins: 17
part R pins: 18
part S pins: 19
part T pins: 20
part U pins: 21
part V pins: 22
part W pins: 23
part X pins: 24
part Y pins: 25
part Z pins: 26
part 27 pins: 27
part 28 pins: 28
part 29 pins: 29
part 30 pins: 30
part 31 pins: 31
part 32 pins: 32
part 33 pins: 33
part 34 pins: 34
part 35 pins: 35
part 36 pins: 36
part 37 pins: 37
part 38 pins: 38
part 39 pins: 39
part 40 pins: 40
part 41 text: Конт.; Цепь

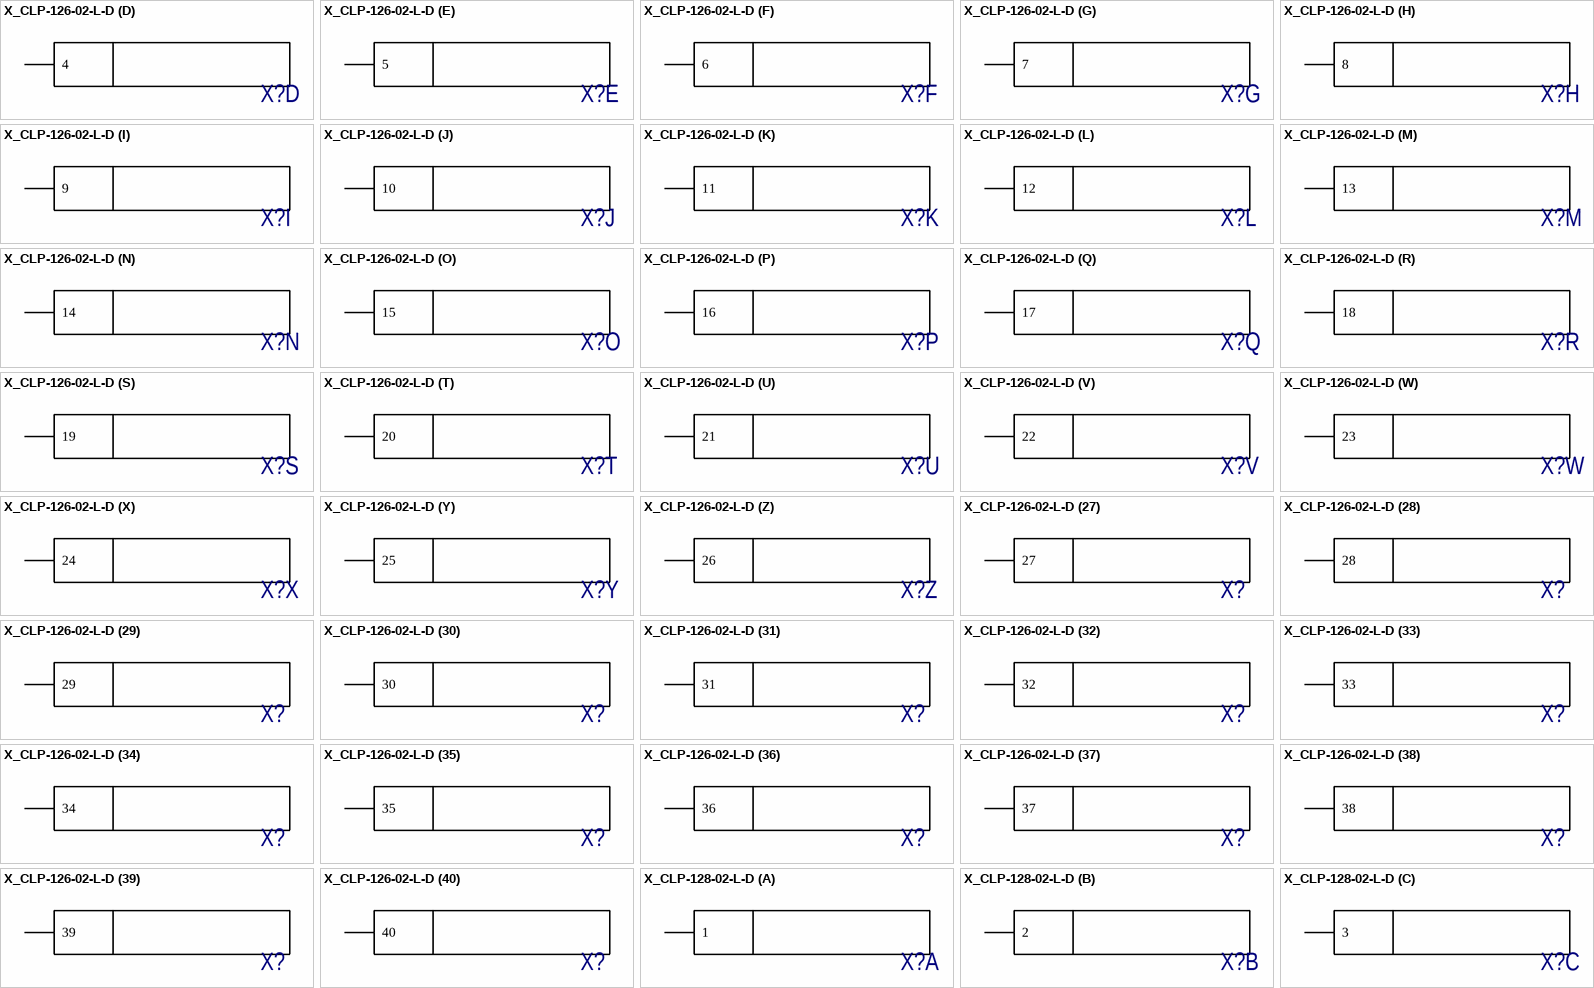
[diagram p9: symbols X_CLP-126-02-L-D to X_CLP-128-02-L-D]

## X_CLP-126-02-L-D
designator X?  (value not drawn)
Value: *
footprint SAMTEC CLP-126-02-L-D
part A pins: 1
part B pins: 2
part C pins: 3
part D pins: 4
part E pins: 5
part F pins: 6
part G pins: 7
part H pins: 8
part I pins: 9
part J pins: 10
part K pins: 11
part L pins: 12
part M pins: 13
part N pins: 14
part O pins: 15
part P pins: 16
part Q pins: 17
part R pins: 18
part S pins: 19
part T pins: 20
part U pins: 21
part V pins: 22
part W pins: 23
part X pins: 24
part Y pins: 25
part Z pins: 26
part 27 pins: 27
part 28 pins: 28
part 29 pins: 29
part 30 pins: 30
part 31 pins: 31
part 32 pins: 32
part 33 pins: 33
part 34 pins: 34
part 35 pins: 35
part 36 pins: 36
part 37 pins: 37
part 38 pins: 38
part 39 pins: 39
part 40 pins: 40
part 41 pins: 41
part 42 pins: 42
part 43 pins: 43
part 44 pins: 44
part 45 pins: 45
part 46 pins: 46
part 47 pins: 47
part 48 pins: 48
part 49 pins: 49
part 50 pins: 50
part 51 pins: 51
part 52 pins: 52
part 53 text: Конт.; Цепь

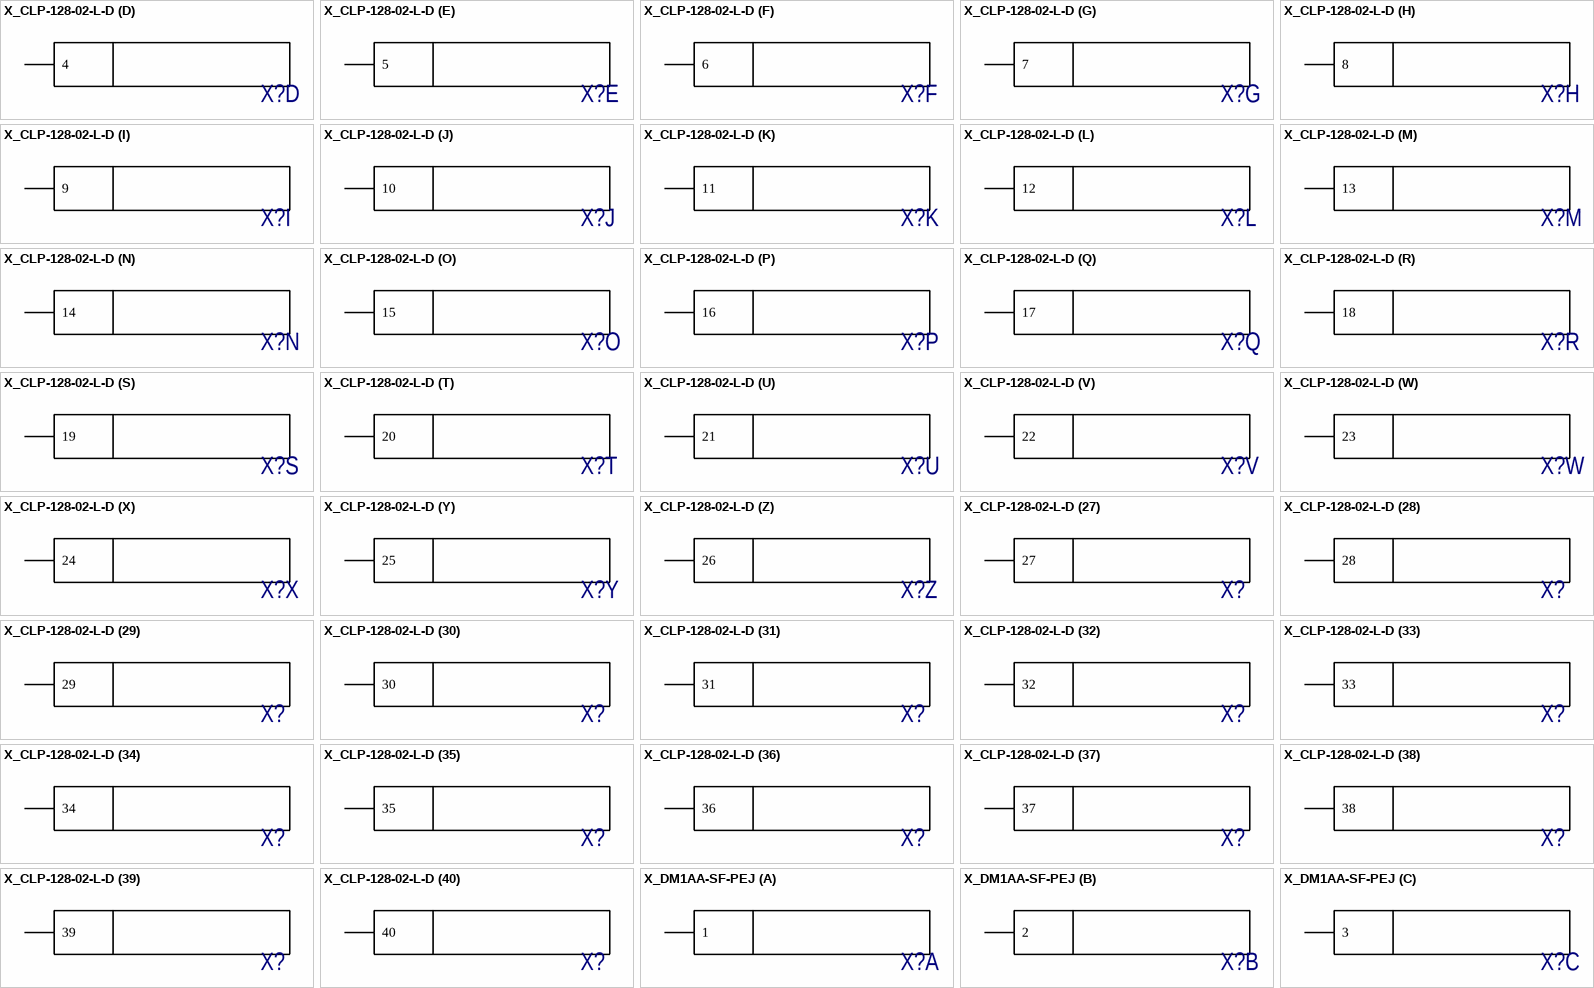
[diagram p10: symbols X_CLP-128-02-L-D to X_DM1AA-SF-PEJ]

## X_CLP-128-02-L-D
designator X?  (value not drawn)
Value: *
footprint SAMTEC CLP-128-02-L-D
part A pins: 1
part B pins: 2
part C pins: 3
part D pins: 4
part E pins: 5
part F pins: 6
part G pins: 7
part H pins: 8
part I pins: 9
part J pins: 10
part K pins: 11
part L pins: 12
part M pins: 13
part N pins: 14
part O pins: 15
part P pins: 16
part Q pins: 17
part R pins: 18
part S pins: 19
part T pins: 20
part U pins: 21
part V pins: 22
part W pins: 23
part X pins: 24
part Y pins: 25
part Z pins: 26
part 27 pins: 27
part 28 pins: 28
part 29 pins: 29
part 30 pins: 30
part 31 pins: 31
part 32 pins: 32
part 33 pins: 33
part 34 pins: 34
part 35 pins: 35
part 36 pins: 36
part 37 pins: 37
part 38 pins: 38
part 39 pins: 39
part 40 pins: 40
part 41 pins: 41
part 42 pins: 42
part 43 pins: 43
part 44 pins: 44
part 45 pins: 45
part 46 pins: 46
part 47 pins: 47
part 48 pins: 48
part 49 pins: 49
part 50 pins: 50
part 51 pins: 51
part 52 pins: 52
part 53 pins: 53
part 54 pins: 54
part 55 pins: 55
part 56 pins: 56
part 57 text: Конт.; Цепь

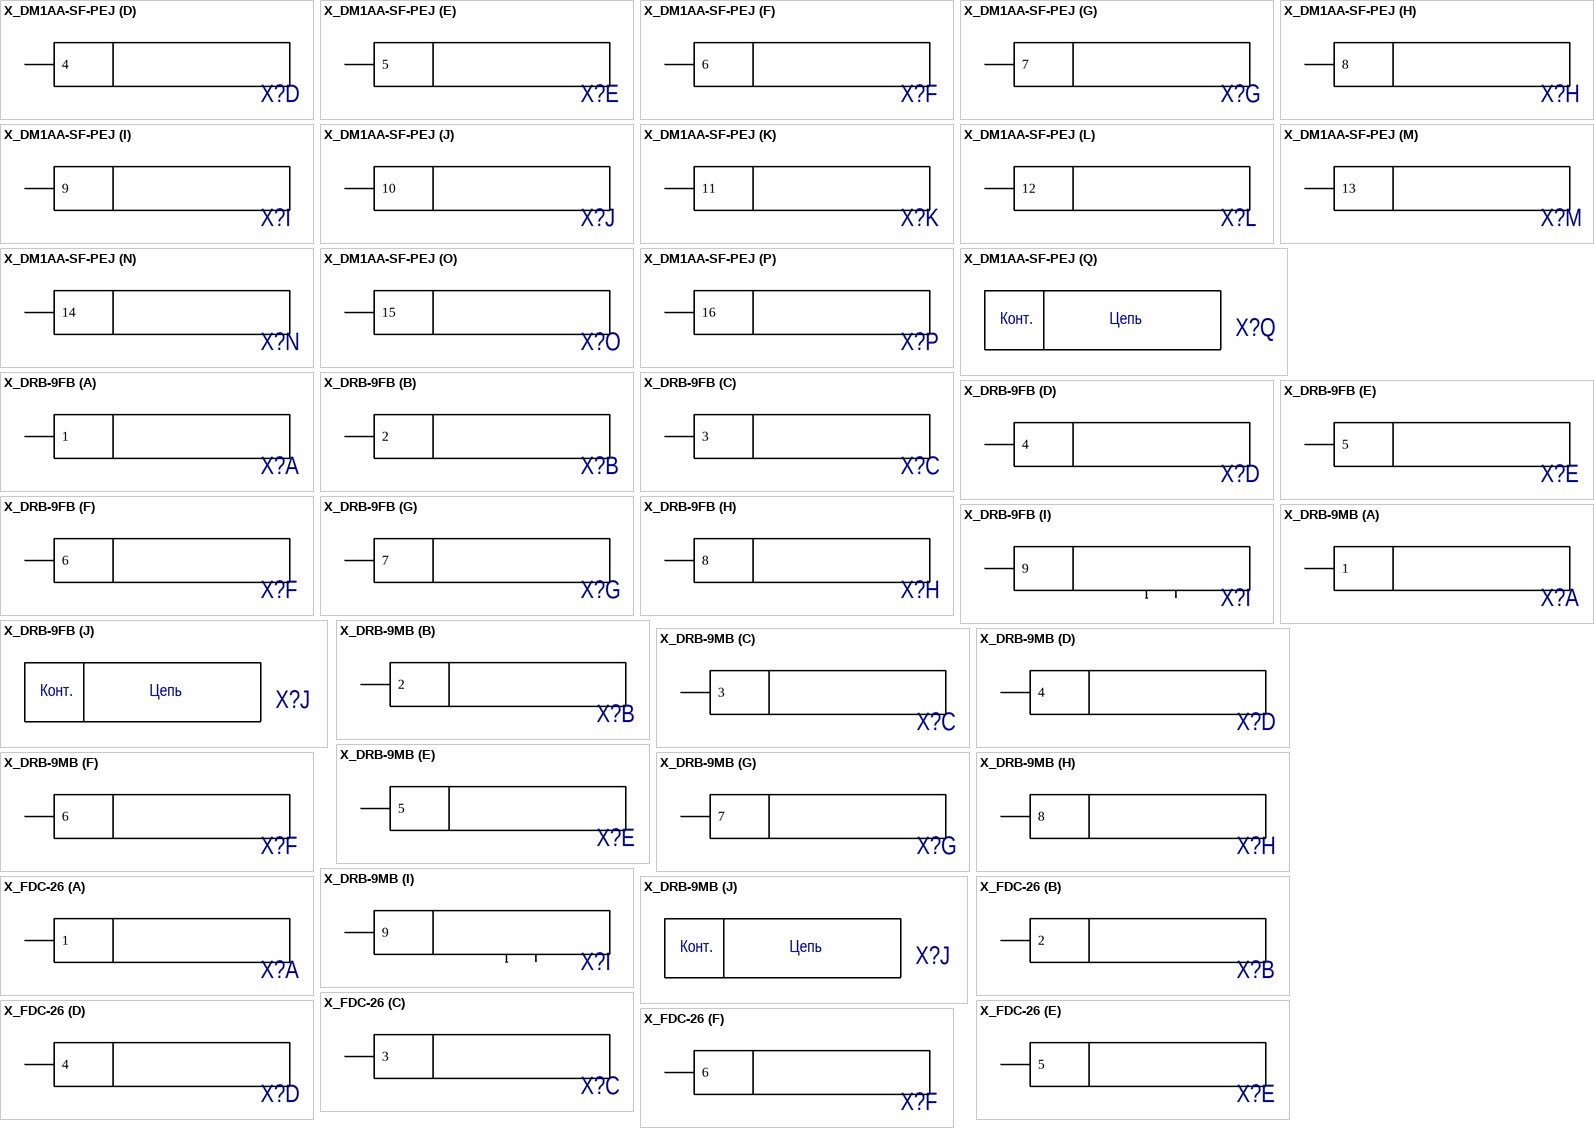
[diagram p11: symbols X_DM1AA-SF-PEJ to X_FDC-26]

## X_DM1AA-SF-PEJ
designator X?  (value not drawn)
Value: *
footprint DM1AA-SF-PEJ(21)
part A pins: 1
part B pins: 2
part C pins: 3
part D pins: 4
part E pins: 5
part F pins: 6
part G pins: 7
part H pins: 8
part I pins: 9
part J pins: 10
part K pins: 11
part L pins: 12
part M pins: 13
part N pins: 14
part O pins: 15
part P pins: 16
part Q text: Конт.; Цепь

## X_DRB-9FB
designator X?  (value not drawn)
Value: *
footprint DRB-9FB
part A pins: 1
part B pins: 2
part C pins: 3
part D pins: 4
part E pins: 5
part F pins: 6
part G pins: 7
part H pins: 8
part I pins: 9, 10 CASE, 11 CASE
part J text: Конт.; Цепь

## X_DRB-9MB
designator X?  (value not drawn)
Value: *
footprint DRB-9MB
part A pins: 1
part B pins: 2
part C pins: 3
part D pins: 4
part E pins: 5
part F pins: 6
part G pins: 7
part H pins: 8
part I pins: 9, 10 CASE, 11 CASE
part J text: Конт.; Цепь

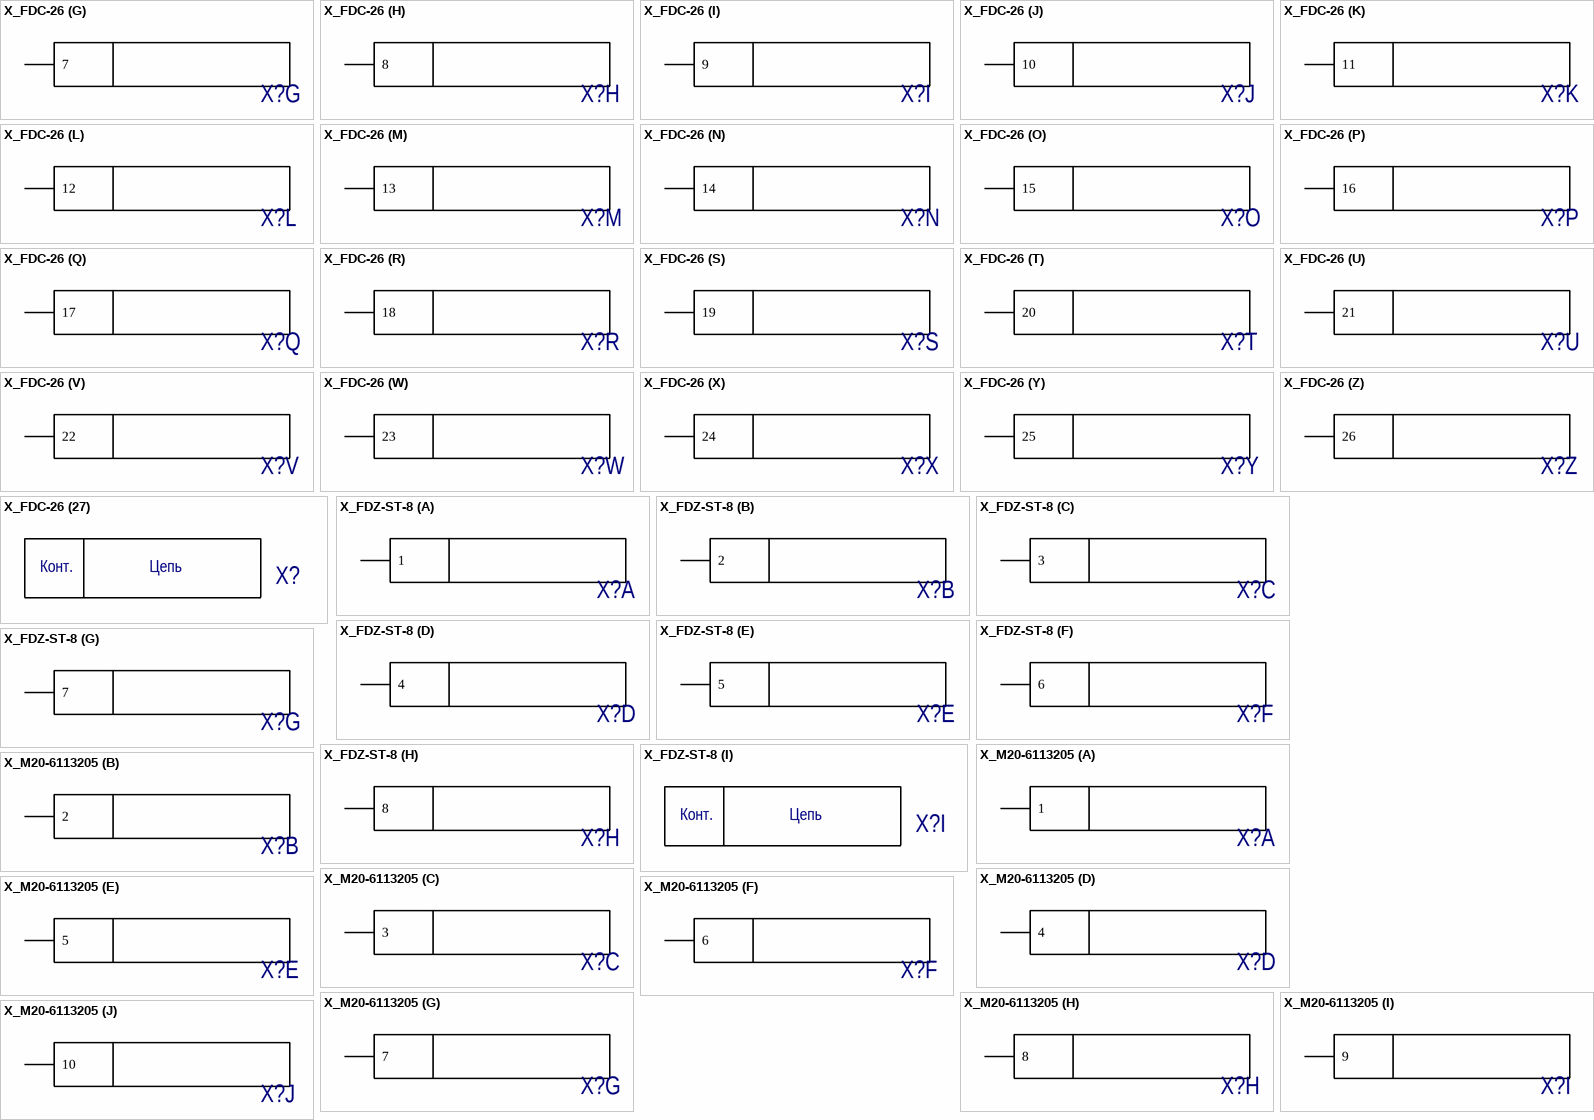
[diagram p12: symbols X_FDC-26 to X_M20-6113205]

## X_FDC-26
designator X?  (value not drawn)
Value: *
footprint FDC-26
part A pins: 1
part B pins: 2
part C pins: 3
part D pins: 4
part E pins: 5
part F pins: 6
part G pins: 7
part H pins: 8
part I pins: 9
part J pins: 10
part K pins: 11
part L pins: 12
part M pins: 13
part N pins: 14
part O pins: 15
part P pins: 16
part Q pins: 17
part R pins: 18
part S pins: 19
part T pins: 20
part U pins: 21
part V pins: 22
part W pins: 23
part X pins: 24
part Y pins: 25
part Z pins: 26
part 27 text: Конт.; Цепь

## X_FDZ-ST-8
designator X?  (value not drawn)
Value: *
footprint FDZ-ST-8
part A pins: 1
part B pins: 2
part C pins: 3
part D pins: 4
part E pins: 5
part F pins: 6
part G pins: 7
part H pins: 8
part I text: Конт.; Цепь

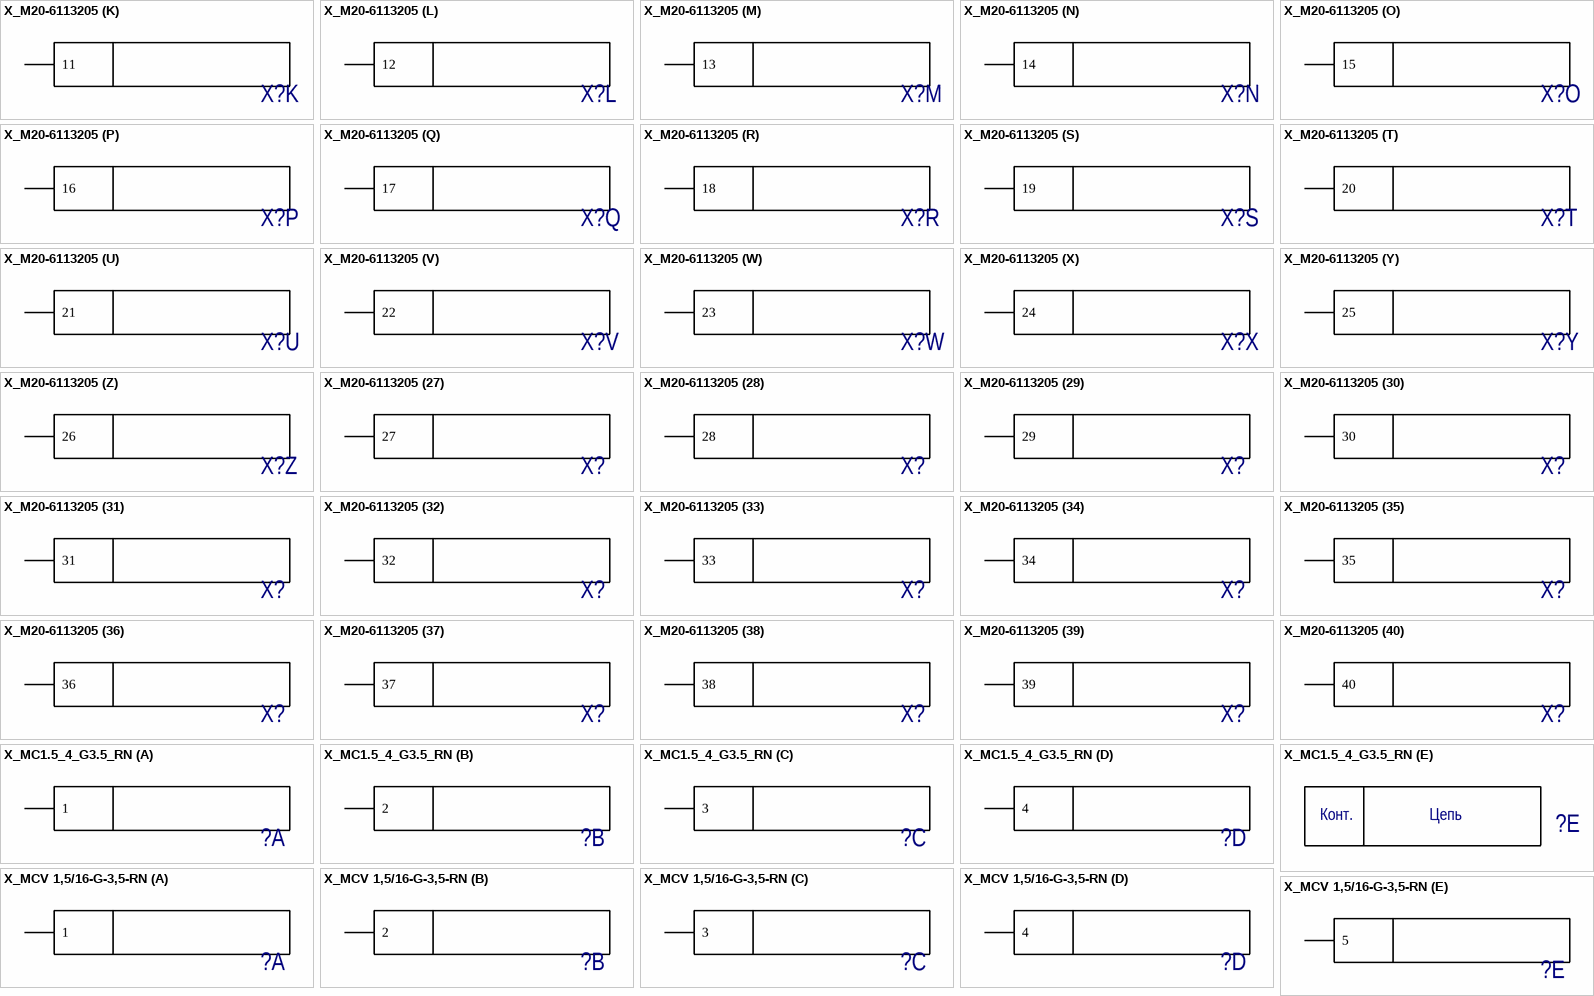
[diagram p13: symbols X_M20-6113205 to X_MCV 1,5/16-G-3,5-RN]

## X_M20-6113205
designator X?  (value not drawn)
Value: *
footprint PBD-64
part A pins: 1
part B pins: 2
part C pins: 3
part D pins: 4
part E pins: 5
part F pins: 6
part G pins: 7
part H pins: 8
part I pins: 9
part J pins: 10
part K pins: 11
part L pins: 12
part M pins: 13
part N pins: 14
part O pins: 15
part P pins: 16
part Q pins: 17
part R pins: 18
part S pins: 19
part T pins: 20
part U pins: 21
part V pins: 22
part W pins: 23
part X pins: 24
part Y pins: 25
part Z pins: 26
part 27 pins: 27
part 28 pins: 28
part 29 pins: 29
part 30 pins: 30
part 31 pins: 31
part 32 pins: 32
part 33 pins: 33
part 34 pins: 34
part 35 pins: 35
part 36 pins: 36
part 37 pins: 37
part 38 pins: 38
part 39 pins: 39
part 40 pins: 40
part 41 pins: 41
part 42 pins: 42
part 43 pins: 43
part 44 pins: 44
part 45 pins: 45
part 46 pins: 46
part 47 pins: 47
part 48 pins: 48
part 49 pins: 49
part 50 pins: 50
part 51 pins: 51
part 52 pins: 52
part 53 pins: 53
part 54 pins: 54
part 55 pins: 55
part 56 pins: 56
part 57 pins: 57
part 58 pins: 58
part 59 pins: 59
part 60 pins: 60
part 61 pins: 61
part 62 pins: 62
part 63 pins: 63
part 64 pins: 64
part 65 text: Конт.; Цепь

## X_MC1.5_4_G3.5_RN
designator ?  (value not drawn)
Value: *
footprint MC1.5_4_G3.5_RN
part A pins: 1
part B pins: 2
part C pins: 3
part D pins: 4
part E text: Конт.; Цепь

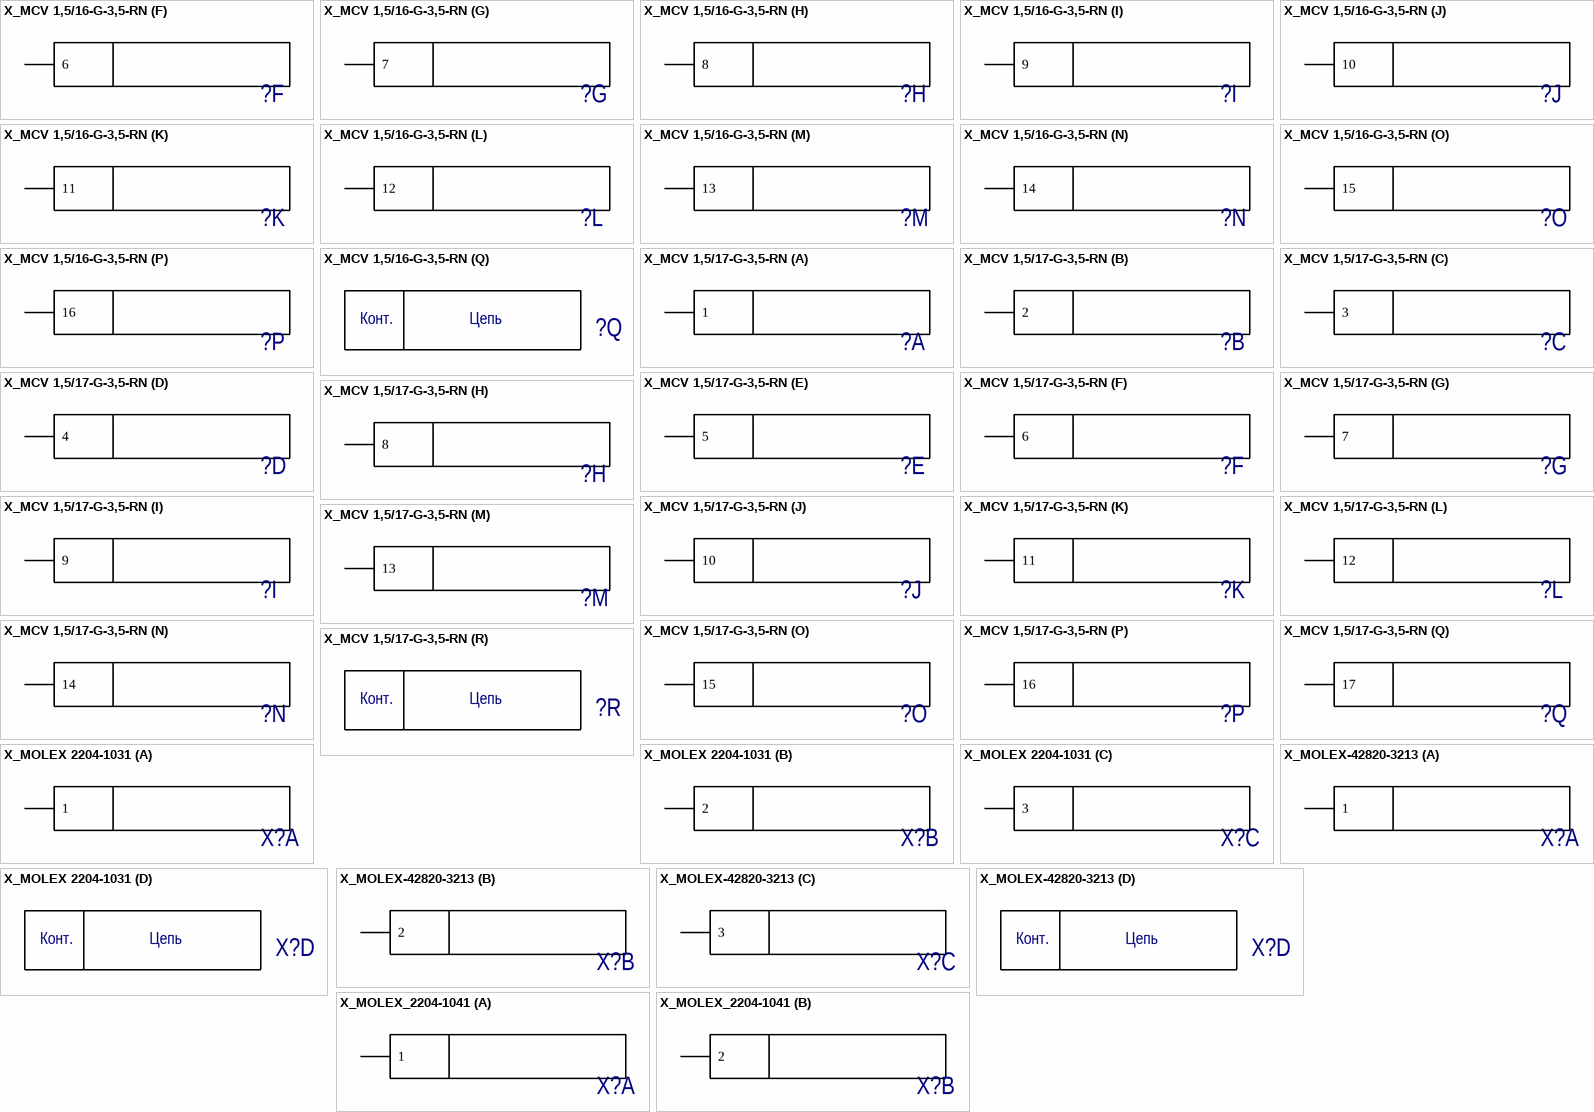
[diagram p14: symbols X_MCV 1,5/16-G-3,5-RN to X_MOLEX_2204-1041]

## X_MCV 1,5/16-G-3,5-RN
designator ?  (value not drawn)
Value: *
footprint MCV 1,5/16-G-3.5
part A pins: 1
part B pins: 2
part C pins: 3
part D pins: 4
part E pins: 5
part F pins: 6
part G pins: 7
part H pins: 8
part I pins: 9
part J pins: 10
part K pins: 11
part L pins: 12
part M pins: 13
part N pins: 14
part O pins: 15
part P pins: 16
part Q text: Конт.; Цепь

## X_MCV 1,5/17-G-3,5-RN
designator ?  (value not drawn)
Value: *
footprint MCV 1,5/17-G-3.5
part A pins: 1
part B pins: 2
part C pins: 3
part D pins: 4
part E pins: 5
part F pins: 6
part G pins: 7
part H pins: 8
part I pins: 9
part J pins: 10
part K pins: 11
part L pins: 12
part M pins: 13
part N pins: 14
part O pins: 15
part P pins: 16
part Q pins: 17
part R text: Конт.; Цепь

## X_MOLEX 2204-1031
designator X?  (value not drawn)
Value: *
footprint ML1031
part A pins: 1
part B pins: 2
part C pins: 3
part D text: Конт.; Цепь

## X_MOLEX-42820-3213
designator X?  (value not drawn)
Value: *
footprint MOLEX 42820-3212
pins on every part: 4 hidden, 5 hidden, 6 hidden, 7 hidden, 8 hidden
part A pins: 1
part B pins: 2
part C pins: 3
part D text: Конт.; Цепь

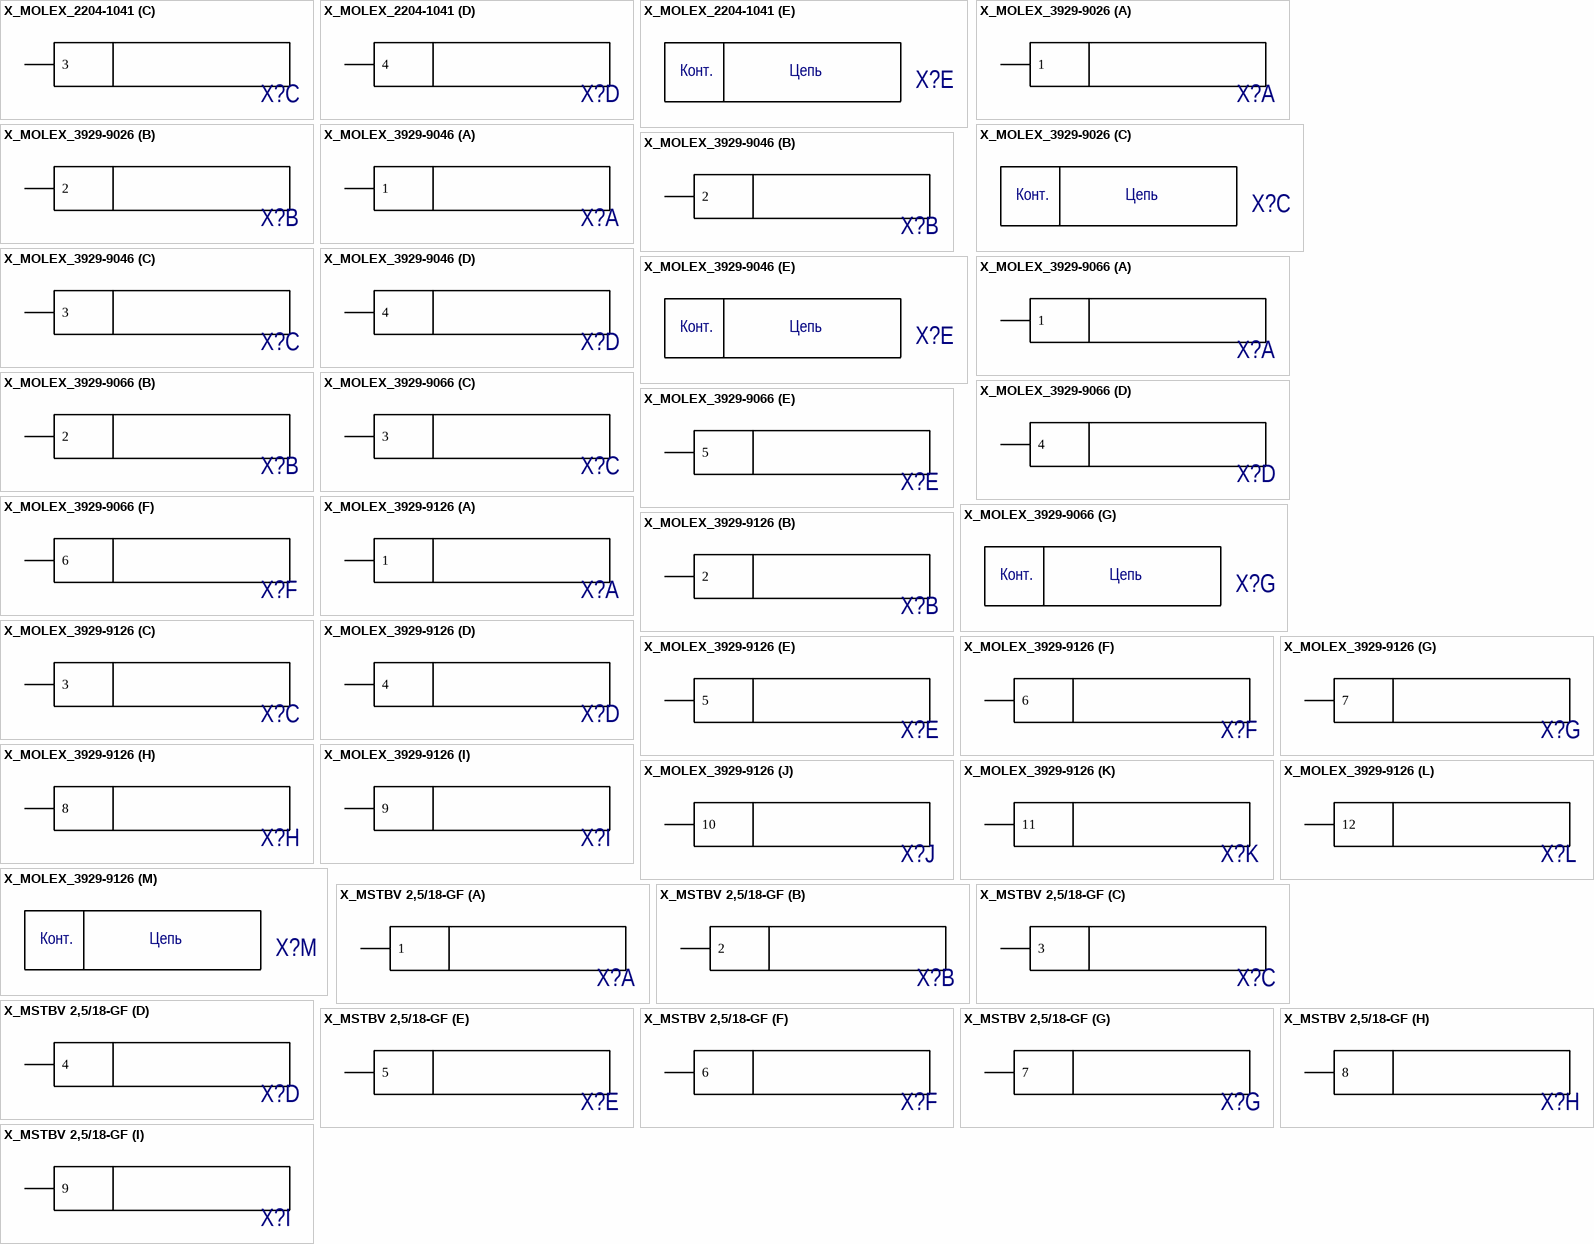
[diagram p15: symbols X_MOLEX_2204-1041 to X_MSTBV 2,5/18-GF]

## X_MOLEX_2204-1041
designator X?  (value not drawn)
Value: *
footprint MOLEX 2204-1041
part A pins: 1
part B pins: 2
part C pins: 3
part D pins: 4
part E text: Конт.; Цепь

## X_MOLEX_3929-9026
designator X?  (value not drawn)
Value: *
footprint MOLEX 3929-9026
pins on every part: 3 hidden, 4 hidden
part A pins: 1
part B pins: 2
part C text: Конт.; Цепь

## X_MOLEX_3929-9046
designator X?  (value not drawn)
Value: *
footprint MOLEX 39-29-9046
part A pins: 1
part B pins: 2
part C pins: 3
part D pins: 4
part E text: Конт.; Цепь

## X_MOLEX_3929-9066
designator X?  (value not drawn)
Value: *
footprint MOLEX 3929-9066
pins on every part: 7 hidden, 8 hidden
part A pins: 1
part B pins: 2
part C pins: 3
part D pins: 4
part E pins: 5
part F pins: 6
part G text: Конт.; Цепь

## X_MOLEX_3929-9126
designator X?  (value not drawn)
Value: *
footprint MOLEX 3929-9126
pins on every part: 13 hidden, 14 hidden
part A pins: 1
part B pins: 2
part C pins: 3
part D pins: 4
part E pins: 5
part F pins: 6
part G pins: 7
part H pins: 8
part I pins: 9
part J pins: 10
part K pins: 11
part L pins: 12
part M text: Конт.; Цепь

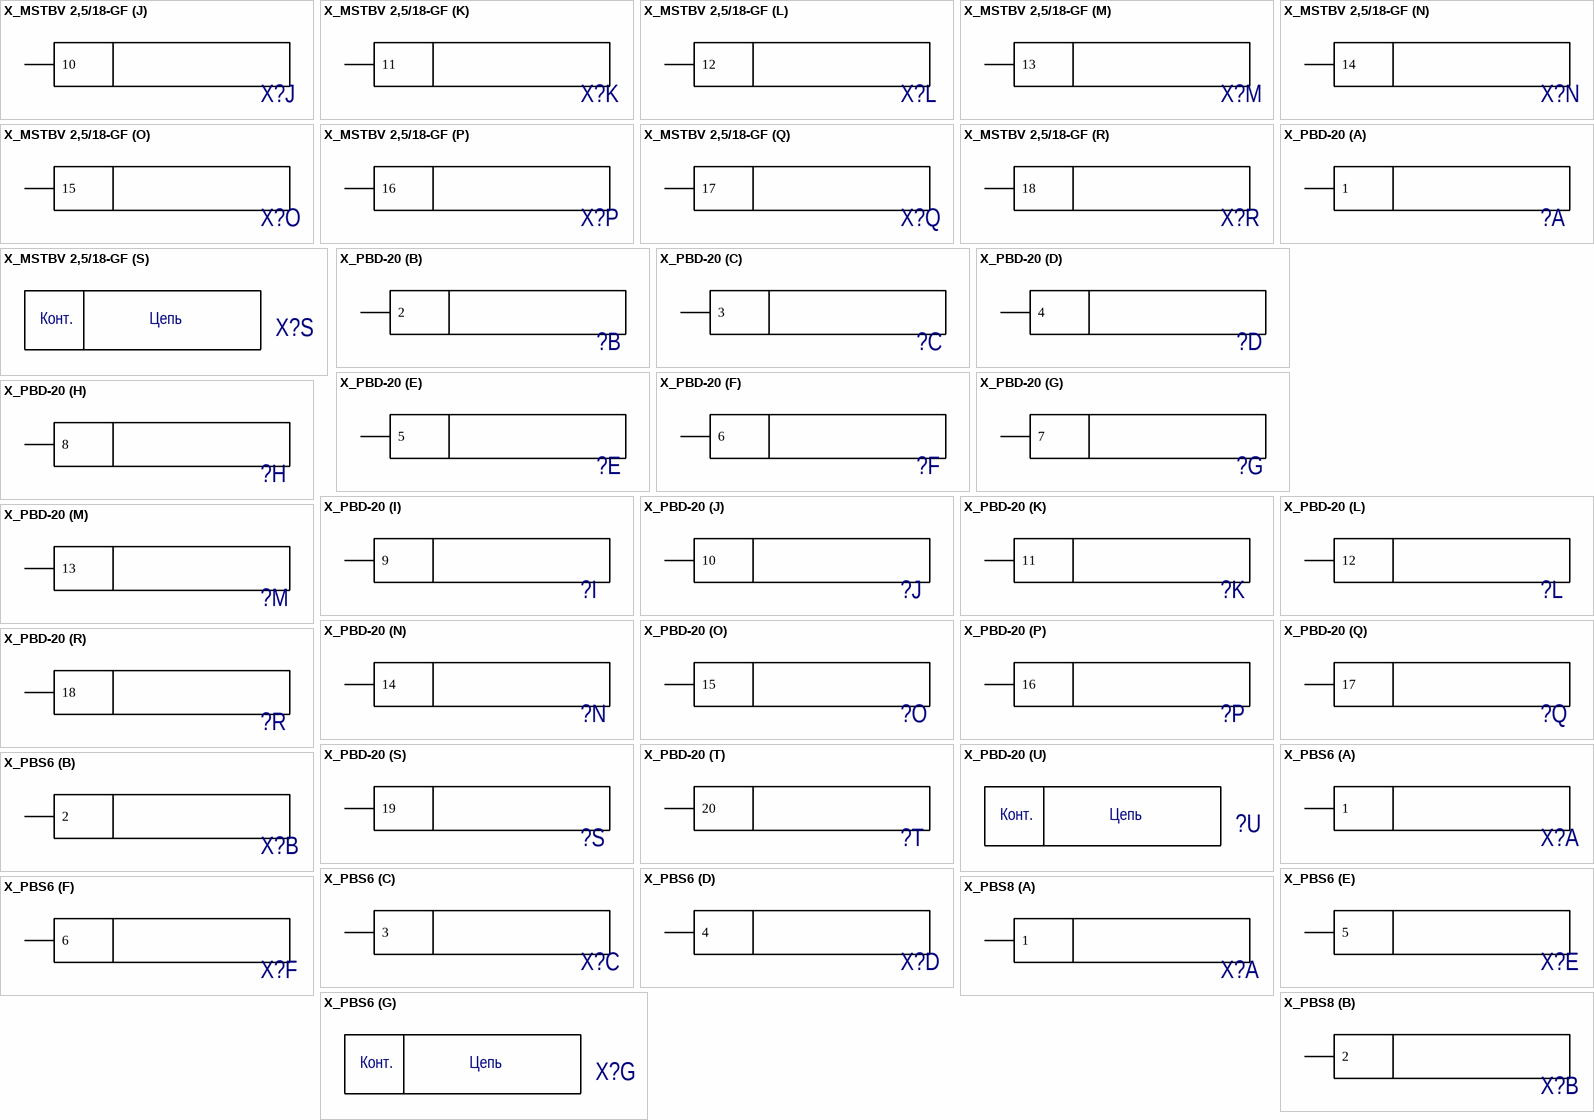
[diagram p16: symbols X_MSTBV 2,5/18-GF to X_PBS8]

## X_MSTBV 2,5/18-GF
designator X?  (value not drawn)
Value: *
footprint MSTBV2,5/18-GF
pins on every part: 19 hidden, 20 hidden
part A pins: 1
part B pins: 2
part C pins: 3
part D pins: 4
part E pins: 5
part F pins: 6
part G pins: 7
part H pins: 8
part I pins: 9
part J pins: 10
part K pins: 11
part L pins: 12
part M pins: 13
part N pins: 14
part O pins: 15
part P pins: 16
part Q pins: 17
part R pins: 18
part S text: Конт.; Цепь

## X_PBD-20
designator ?  (value not drawn)
Value: *
footprint PBD-20
part A pins: 1
part B pins: 2
part C pins: 3
part D pins: 4
part E pins: 5
part F pins: 6
part G pins: 7
part H pins: 8
part I pins: 9
part J pins: 10
part K pins: 11
part L pins: 12
part M pins: 13
part N pins: 14
part O pins: 15
part P pins: 16
part Q pins: 17
part R pins: 18
part S pins: 19
part T pins: 20
part U text: Конт.; Цепь

## X_PBS6
designator X?  (value not drawn)
Value: *
footprint PLS_6
part A pins: 1
part B pins: 2
part C pins: 3
part D pins: 4
part E pins: 5
part F pins: 6
part G text: Конт.; Цепь

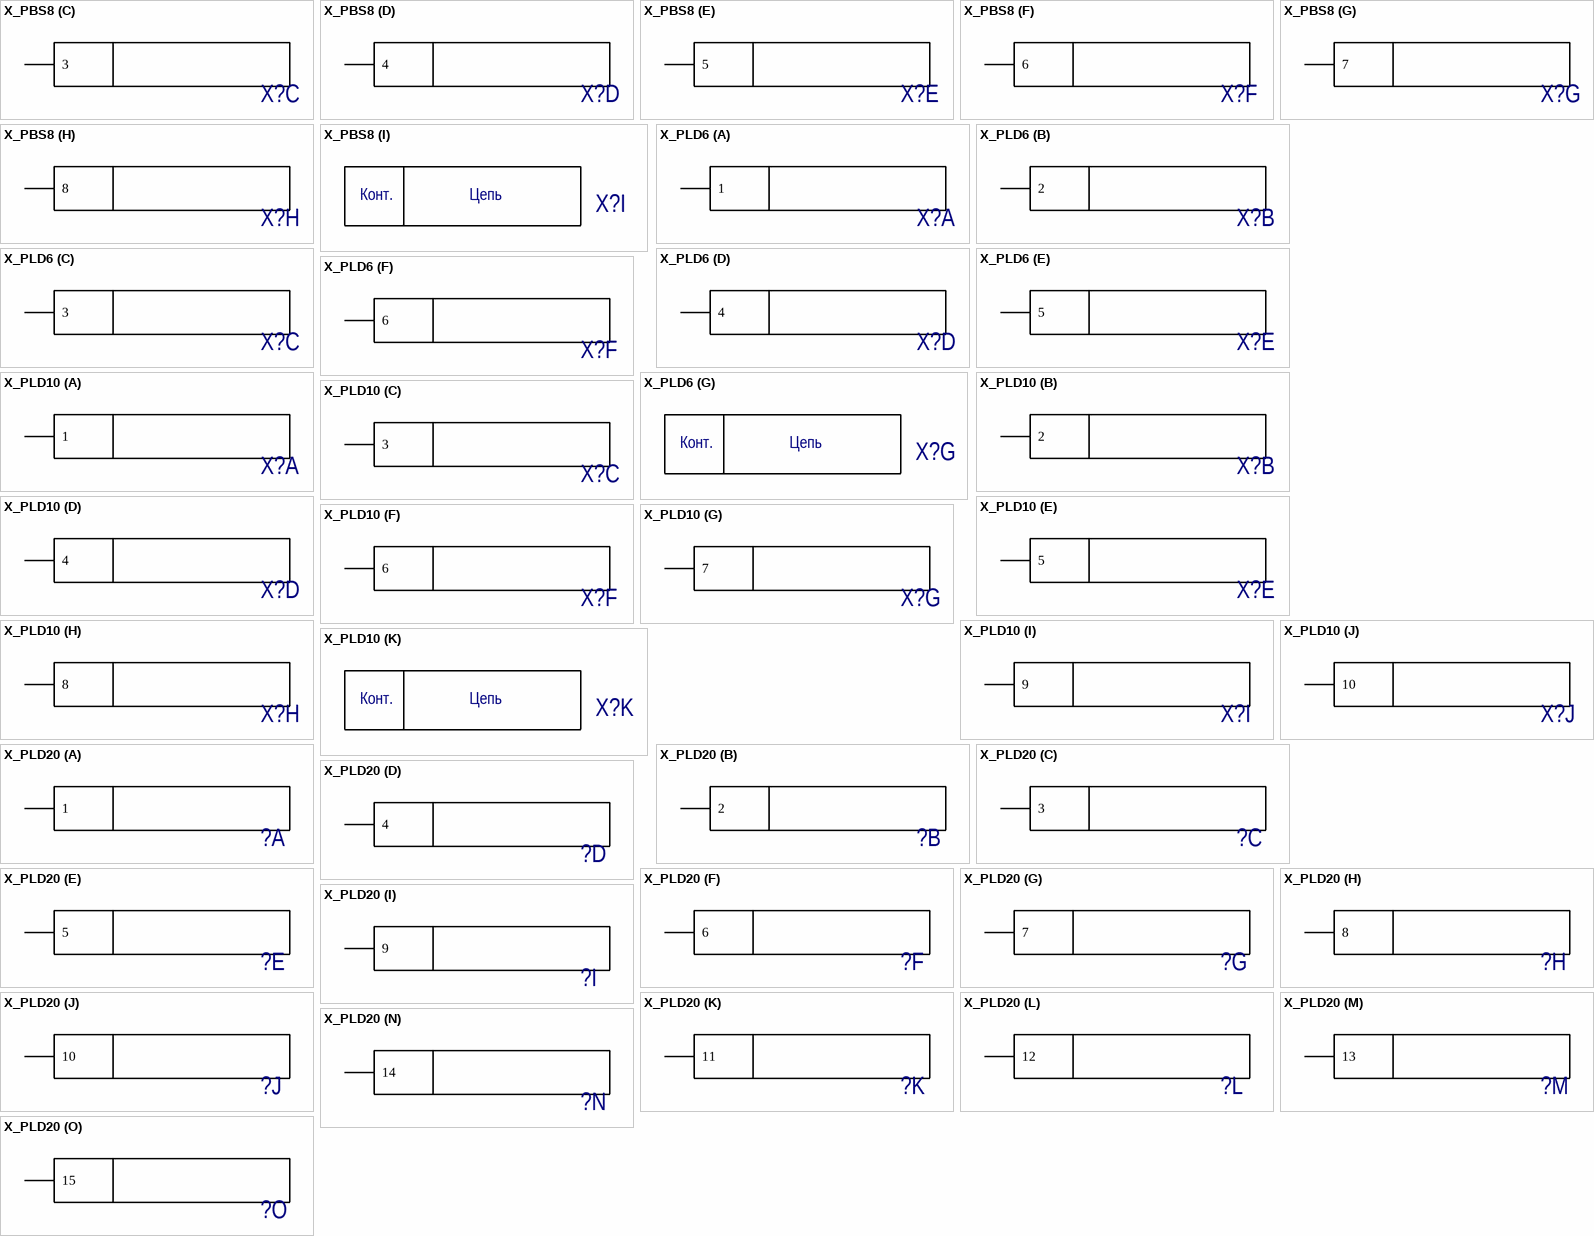
[diagram p17: symbols X_PBS8 to X_PLD20]

## X_PBS8
designator X?  (value not drawn)
Value: *
footprint PLS_8
part A pins: 1
part B pins: 2
part C pins: 3
part D pins: 4
part E pins: 5
part F pins: 6
part G pins: 7
part H pins: 8
part I text: Конт.; Цепь

## X_PLD6
designator X?  (value not drawn)
Value: *
footprint PLD-6
part A pins: 1
part B pins: 2
part C pins: 3
part D pins: 4
part E pins: 5
part F pins: 6
part G text: Конт.; Цепь

## X_PLD10
designator X?  (value not drawn)
Value: *
footprint PLD-10
part A pins: 1
part B pins: 2
part C pins: 3
part D pins: 4
part E pins: 5
part F pins: 6
part G pins: 7
part H pins: 8
part I pins: 9
part J pins: 10
part K text: Конт.; Цепь

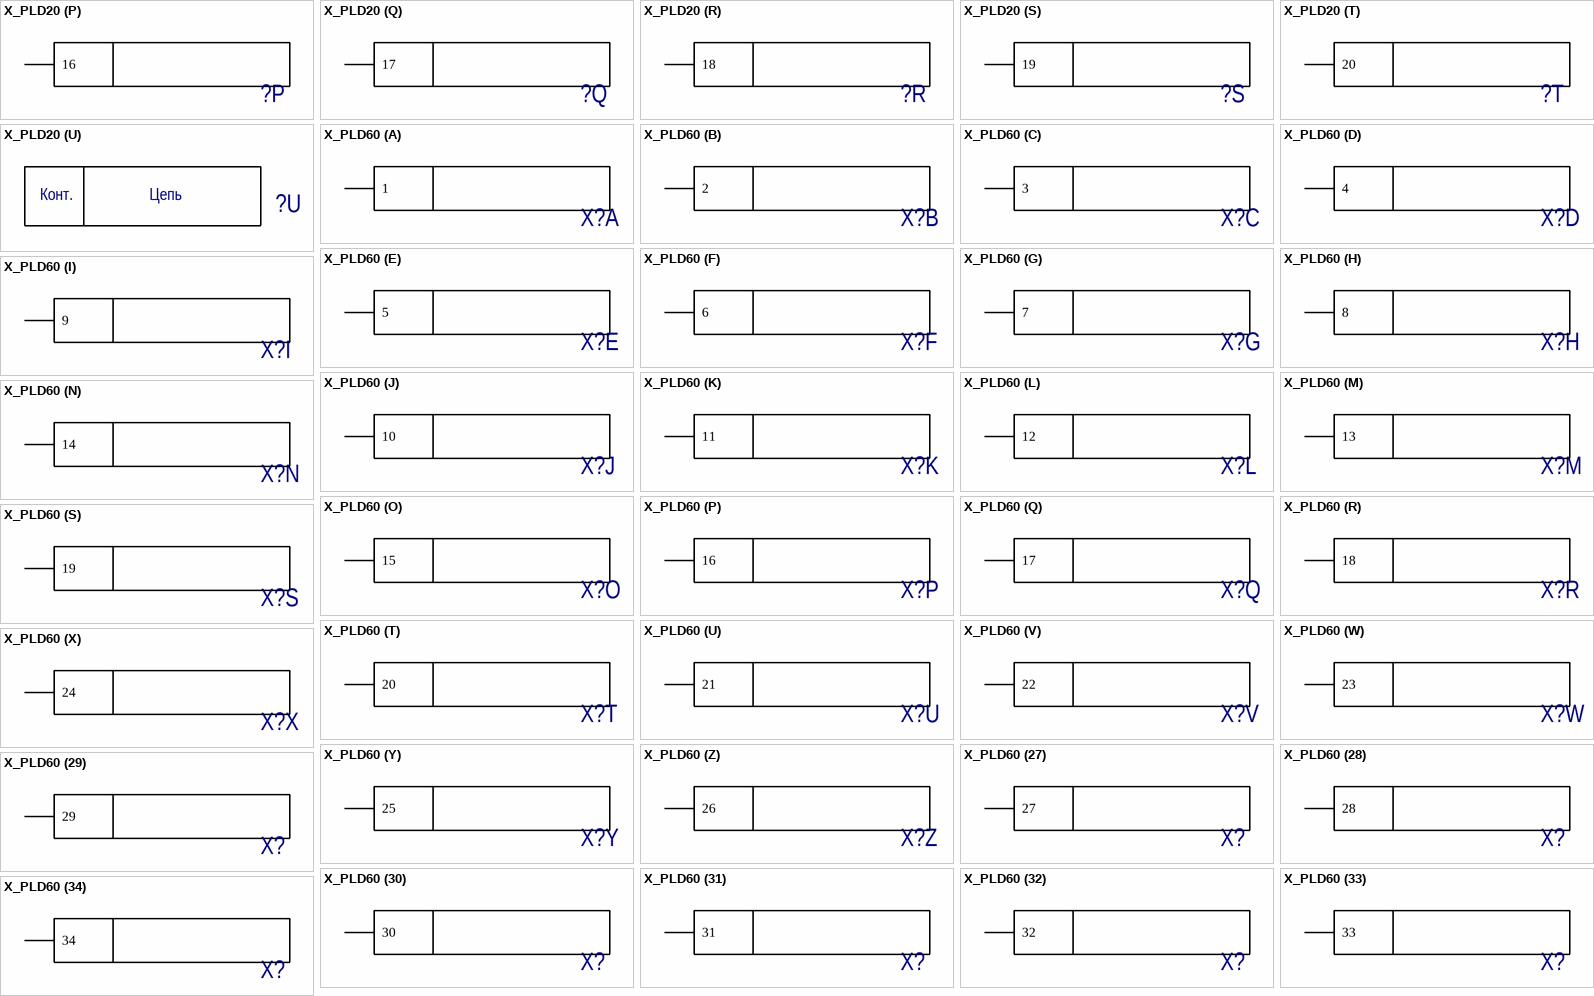
[diagram p18: symbols X_PLD20 to X_PLD60]

## X_PLD20
designator ?  (value not drawn)
Value: *
footprint PLD-20
part A pins: 1
part B pins: 2
part C pins: 3
part D pins: 4
part E pins: 5
part F pins: 6
part G pins: 7
part H pins: 8
part I pins: 9
part J pins: 10
part K pins: 11
part L pins: 12
part M pins: 13
part N pins: 14
part O pins: 15
part P pins: 16
part Q pins: 17
part R pins: 18
part S pins: 19
part T pins: 20
part U text: Конт.; Цепь

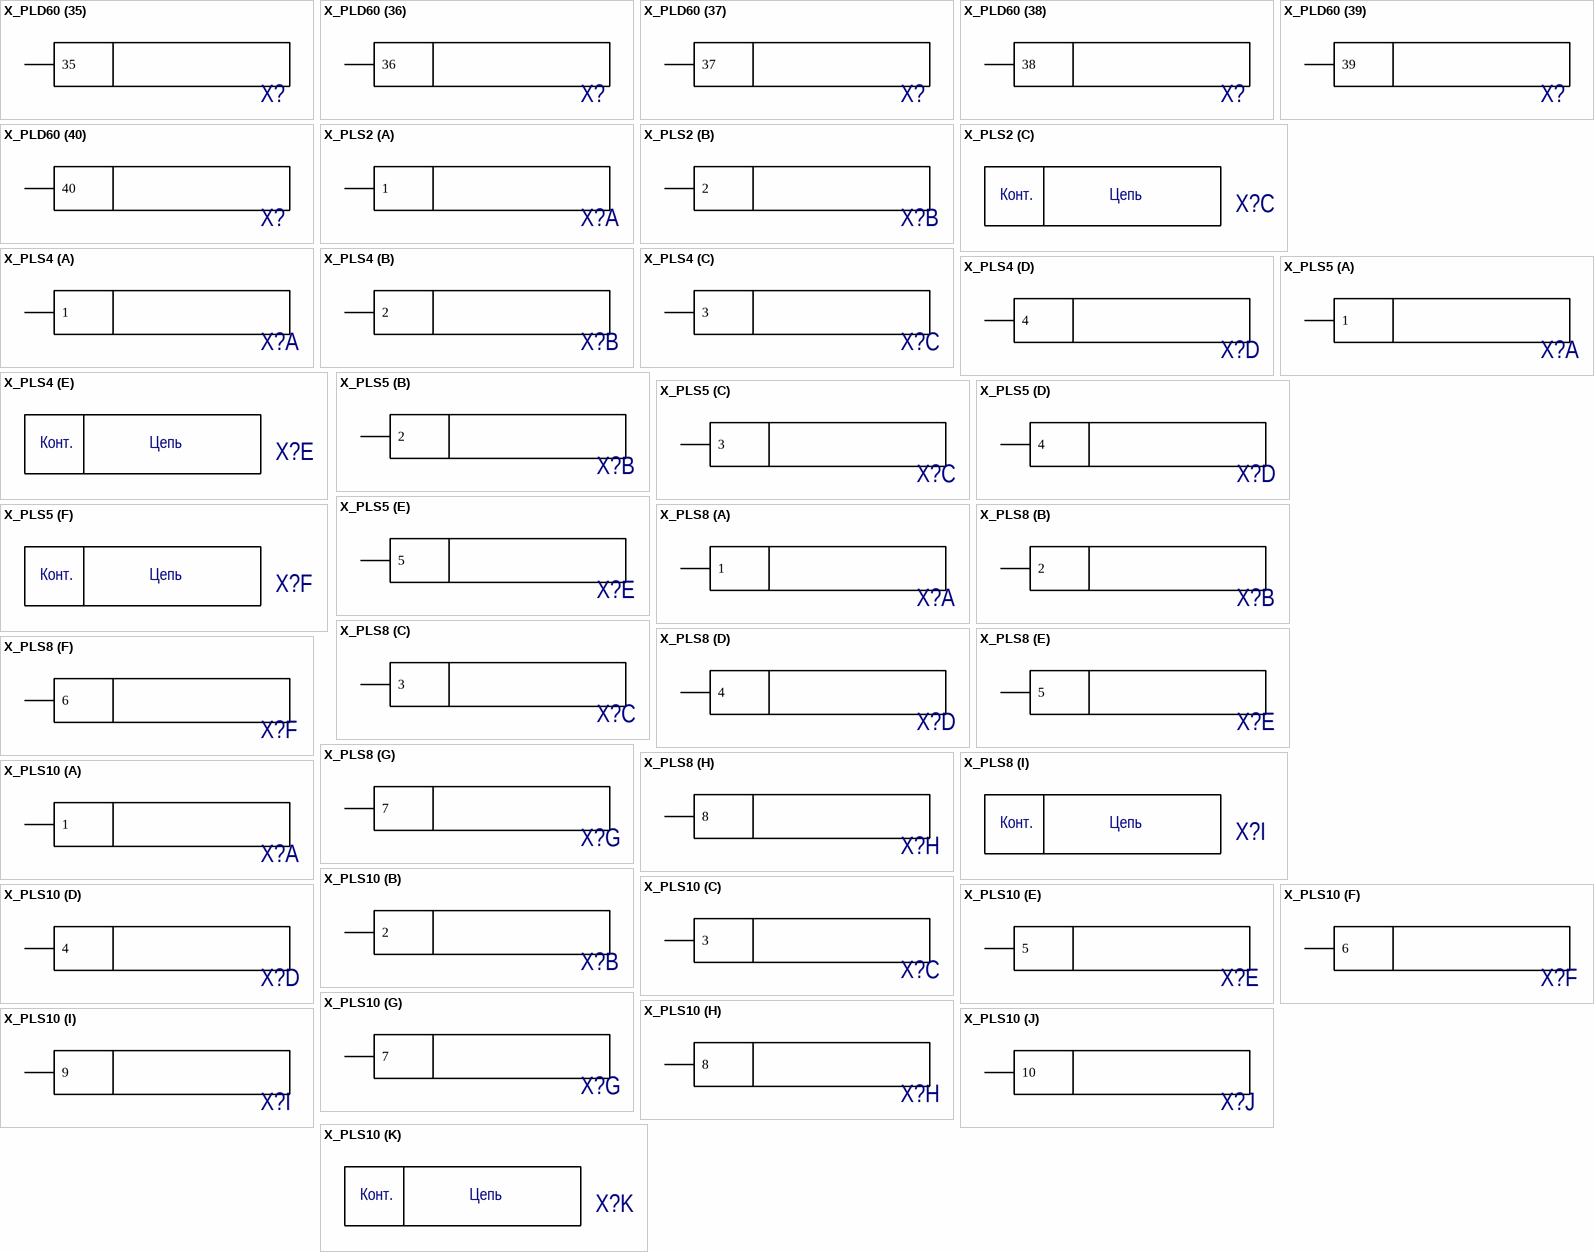
[diagram p19: symbols X_PLD60 to X_PLS10]

## X_PLD60
designator X?  (value not drawn)
Value: *
footprint PLD-60_L
footprint PLD-60_Primary
footprint PLD-60_R
part A pins: 1
part B pins: 2
part C pins: 3
part D pins: 4
part E pins: 5
part F pins: 6
part G pins: 7
part H pins: 8
part I pins: 9
part J pins: 10
part K pins: 11
part L pins: 12
part M pins: 13
part N pins: 14
part O pins: 15
part P pins: 16
part Q pins: 17
part R pins: 18
part S pins: 19
part T pins: 20
part U pins: 21
part V pins: 22
part W pins: 23
part X pins: 24
part Y pins: 25
part Z pins: 26
part 27 pins: 27
part 28 pins: 28
part 29 pins: 29
part 30 pins: 30
part 31 pins: 31
part 32 pins: 32
part 33 pins: 33
part 34 pins: 34
part 35 pins: 35
part 36 pins: 36
part 37 pins: 37
part 38 pins: 38
part 39 pins: 39
part 40 pins: 40
part 41 pins: 41
part 42 pins: 42
part 43 pins: 43
part 44 pins: 44
part 45 pins: 45
part 46 pins: 46
part 47 pins: 47
part 48 pins: 48
part 49 pins: 49
part 50 pins: 50
part 51 pins: 51
part 52 pins: 52
part 53 pins: 53
part 54 pins: 54
part 55 pins: 55
part 56 pins: 56
part 57 pins: 57
part 58 pins: 58
part 59 pins: 59
part 60 pins: 60
part 61 text: Конт.; Цепь

## X_PLS2
designator X?  (value not drawn)
Value: *
footprint PLS-2
part A pins: 1
part B pins: 2
part C text: Конт.; Цепь

## X_PLS4
designator X?  (value not drawn)
Value: *
footprint PLS-4
part A pins: 1
part B pins: 2
part C pins: 3
part D pins: 4
part E text: Конт.; Цепь

## X_PLS5
designator X?  (value not drawn)
Value: *
footprint PLS-5
part A pins: 1
part B pins: 2
part C pins: 3
part D pins: 4
part E pins: 5
part F text: Конт.; Цепь

## X_PLS8
designator X?  (value not drawn)
Value: *
footprint PLS_8
part A pins: 1
part B pins: 2
part C pins: 3
part D pins: 4
part E pins: 5
part F pins: 6
part G pins: 7
part H pins: 8
part I text: Конт.; Цепь

## X_PLS10
designator X?  (value not drawn)
Value: *
footprint PLS-10
part A pins: 1
part B pins: 2
part C pins: 3
part D pins: 4
part E pins: 5
part F pins: 6
part G pins: 7
part H pins: 8
part I pins: 9
part J pins: 10
part K text: Конт.; Цепь

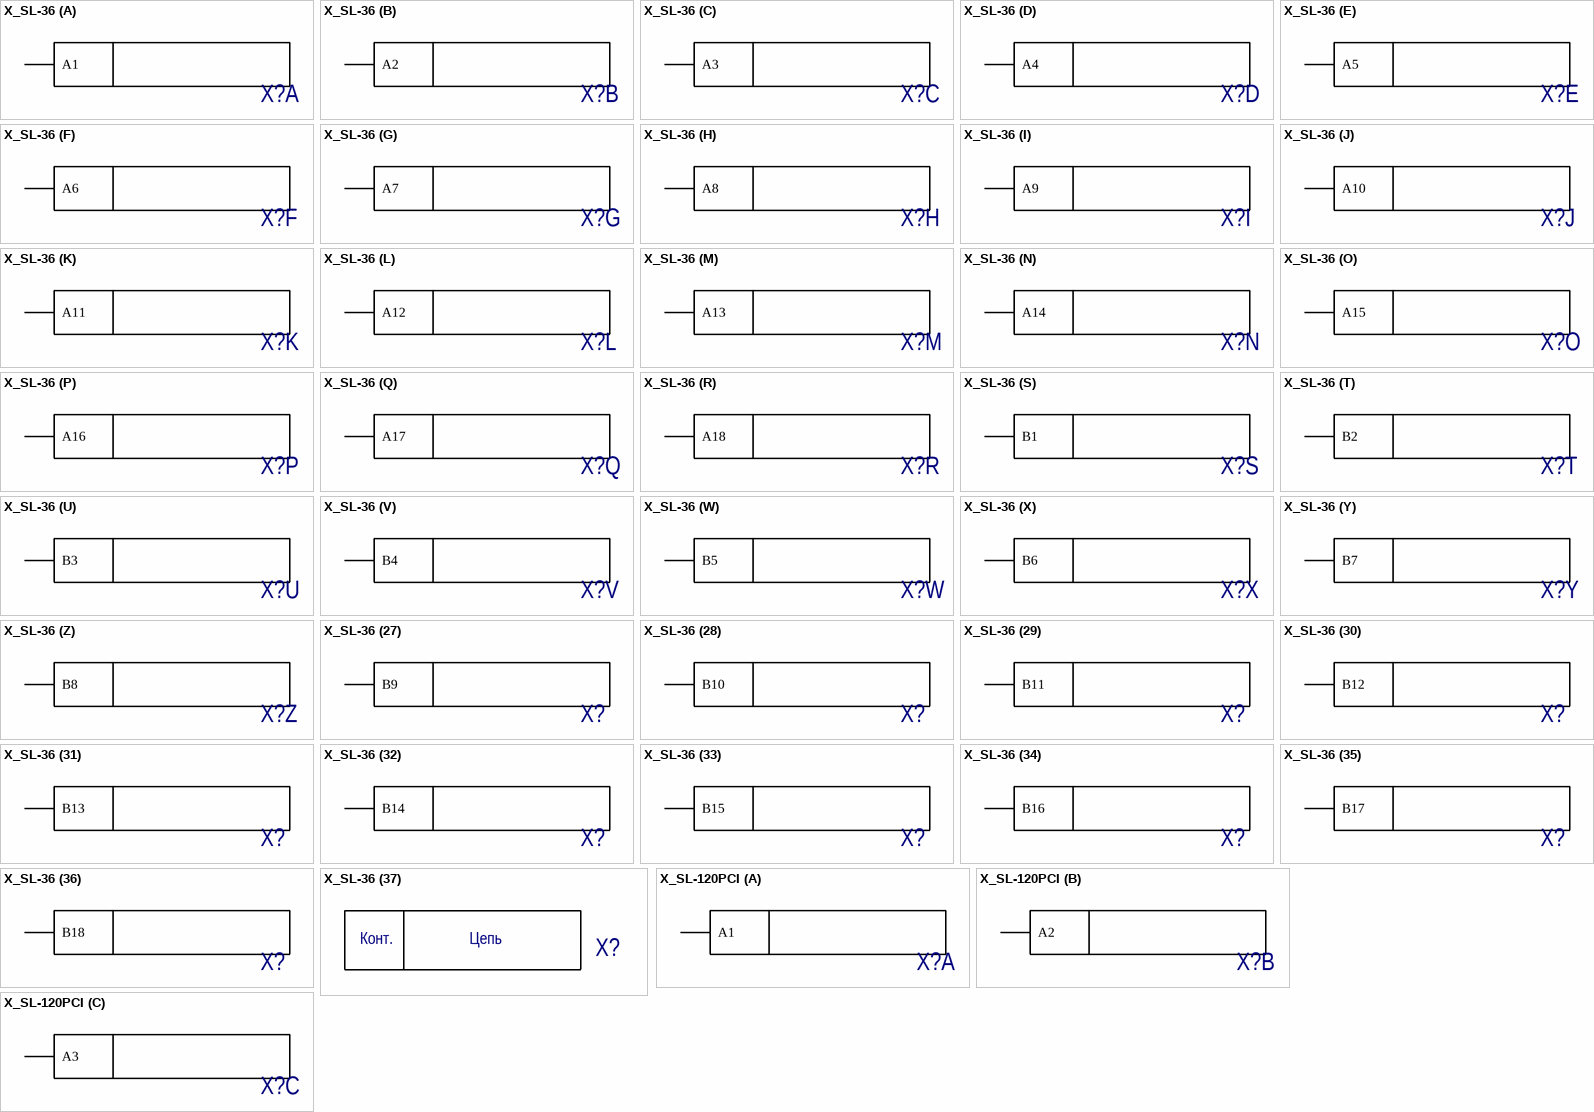
[diagram p20: symbols X_SL-36 to X_SL-120PCI]

## X_SL-36
designator X?  (value not drawn)
Value: *
footprint SL-36_X_SL-36(Primary)
part A pins: A1
part B pins: A2
part C pins: A3
part D pins: A4
part E pins: A5
part F pins: A6
part G pins: A7
part H pins: A8
part I pins: A9
part J pins: A10
part K pins: A11
part L pins: A12
part M pins: A13
part N pins: A14
part O pins: A15
part P pins: A16
part Q pins: A17
part R pins: A18
part S pins: B1
part T pins: B2
part U pins: B3
part V pins: B4
part W pins: B5
part X pins: B6
part Y pins: B7
part Z pins: B8
part 27 pins: B9
part 28 pins: B10
part 29 pins: B11
part 30 pins: B12
part 31 pins: B13
part 32 pins: B14
part 33 pins: B15
part 34 pins: B16
part 35 pins: B17
part 36 pins: B18
part 37 text: Конт.; Цепь

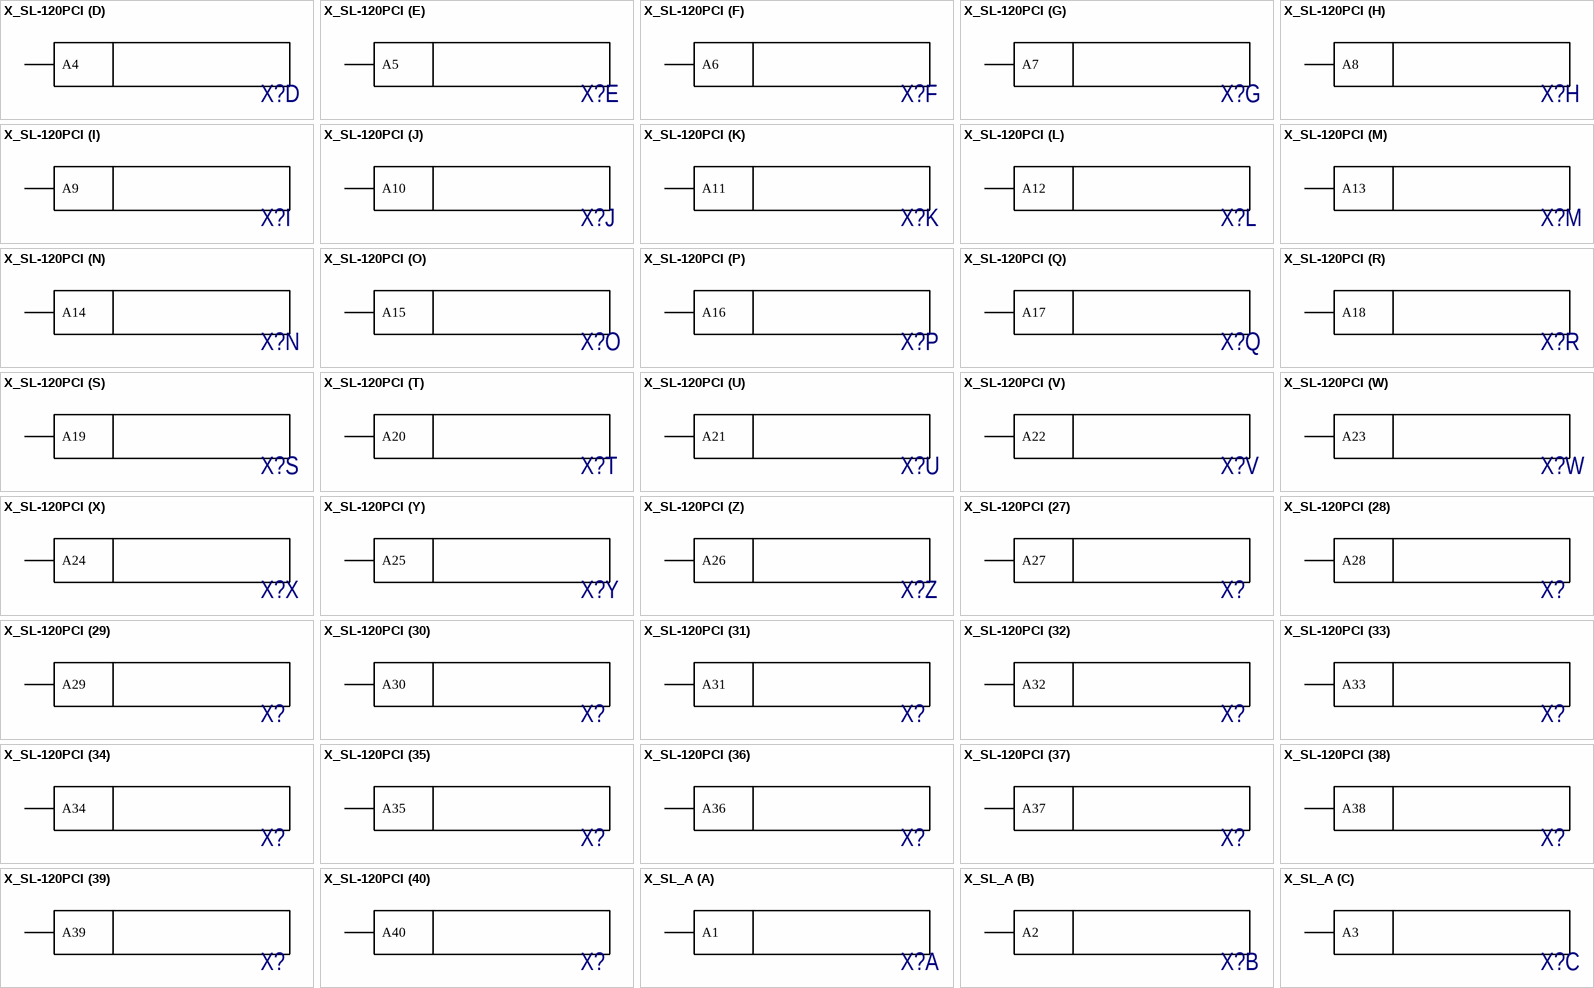
[diagram p21: symbols X_SL-120PCI to X_SL_A]

## X_SL-120PCI
designator X?  (value not drawn)
Value: *
footprint PCI-120PIN_X_SL-120PCI(Primary)
part A pins: A1
part B pins: A2
part C pins: A3
part D pins: A4
part E pins: A5
part F pins: A6
part G pins: A7
part H pins: A8
part I pins: A9
part J pins: A10
part K pins: A11
part L pins: A12
part M pins: A13
part N pins: A14
part O pins: A15
part P pins: A16
part Q pins: A17
part R pins: A18
part S pins: A19
part T pins: A20
part U pins: A21
part V pins: A22
part W pins: A23
part X pins: A24
part Y pins: A25
part Z pins: A26
part 27 pins: A27
part 28 pins: A28
part 29 pins: A29
part 30 pins: A30
part 31 pins: A31
part 32 pins: A32
part 33 pins: A33
part 34 pins: A34
part 35 pins: A35
part 36 pins: A36
part 37 pins: A37
part 38 pins: A38
part 39 pins: A39
part 40 pins: A40
part 41 pins: A41
part 42 pins: A42
part 43 pins: A43
part 44 pins: A44
part 45 pins: A45
part 46 pins: A46
part 47 pins: A47
part 48 pins: A48
part 49 pins: A49
part 50 pins: A50
part 51 pins: A51
part 52 pins: A52
part 53 pins: A53
part 54 pins: A54
part 55 pins: A55
part 56 pins: A56
part 57 pins: A57
part 58 pins: A58
part 59 pins: A59
part 60 pins: A60
part 61 pins: B1
part 62 pins: B2
part 63 pins: B3
part 64 pins: B4
part 65 pins: B5
part 66 pins: B6
part 67 pins: B7
part 68 pins: B8
part 69 pins: B9
part 70 pins: B10
part 71 pins: B11
part 72 pins: B12
part 73 pins: B13
part 74 pins: B14
part 75 pins: B15
part 76 pins: B16
part 77 pins: B17
part 78 pins: B18
part 79 pins: B19
part 80 pins: B20
part 81 pins: B21
part 82 pins: B22
part 83 pins: B23
part 84 pins: B24
part 85 pins: B25
part 86 pins: B26
part 87 pins: B27
part 88 pins: B28
part 89 pins: B29
part 90 pins: B30
part 91 pins: B31
part 92 pins: B32
part 93 pins: B33
part 94 pins: B34
part 95 pins: B35
part 96 pins: B36
part 97 pins: B37
part 98 pins: B38
part 99 pins: B39
part 100 pins: B40
part 101 pins: B41
part 102 pins: B42
part 103 pins: B43
part 104 pins: B44
part 105 pins: B45
part 106 pins: B46
part 107 pins: B47
part 108 pins: B48
part 109 pins: B49
part 110 pins: B50
part 111 pins: B51
part 112 pins: B52
part 113 pins: B53
part 114 pins: B54
part 115 pins: B55
part 116 pins: B56
part 117 pins: B57
part 118 pins: B58
part 119 pins: B59
part 120 pins: B60
part 121 text: Конт.; Цепь

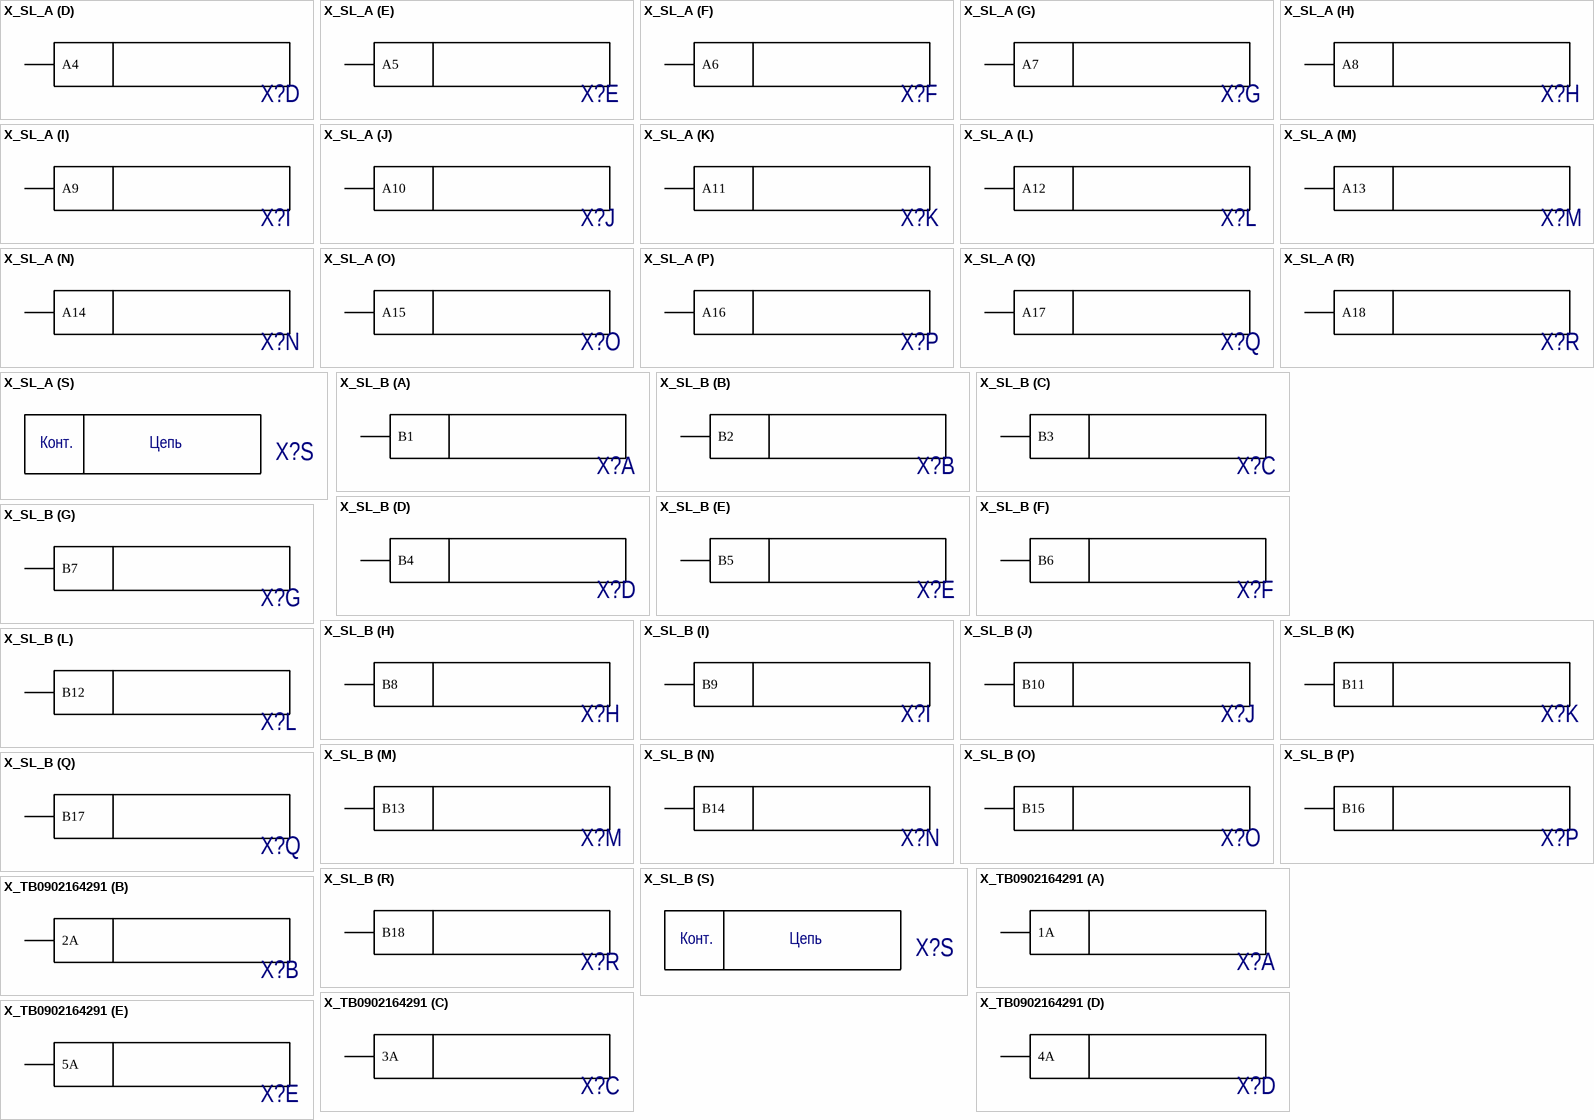
[diagram p22: symbols X_SL_A to X_TB0902164291]

## X_SL_A
designator X?  (value not drawn)
Value: *
footprint SL_A_X_SL_A(Primary)
part A pins: A1
part B pins: A2
part C pins: A3
part D pins: A4
part E pins: A5
part F pins: A6
part G pins: A7
part H pins: A8
part I pins: A9
part J pins: A10
part K pins: A11
part L pins: A12
part M pins: A13
part N pins: A14
part O pins: A15
part P pins: A16
part Q pins: A17
part R pins: A18
part S text: Конт.; Цепь

## X_SL_B
designator X?  (value not drawn)
Value: *
footprint SL_B_X_SL_B(Primary)
part A pins: B1
part B pins: B2
part C pins: B3
part D pins: B4
part E pins: B5
part F pins: B6
part G pins: B7
part H pins: B8
part I pins: B9
part J pins: B10
part K pins: B11
part L pins: B12
part M pins: B13
part N pins: B14
part O pins: B15
part P pins: B16
part Q pins: B17
part R pins: B18
part S text: Конт.; Цепь